# Altium schematic symbol library LIBRERIA DIAZ BAEZ.SCHLIB: 180 symbols (part 1 of 2)
Pins are listed as number, name and electrical type; pins without a type are passive.

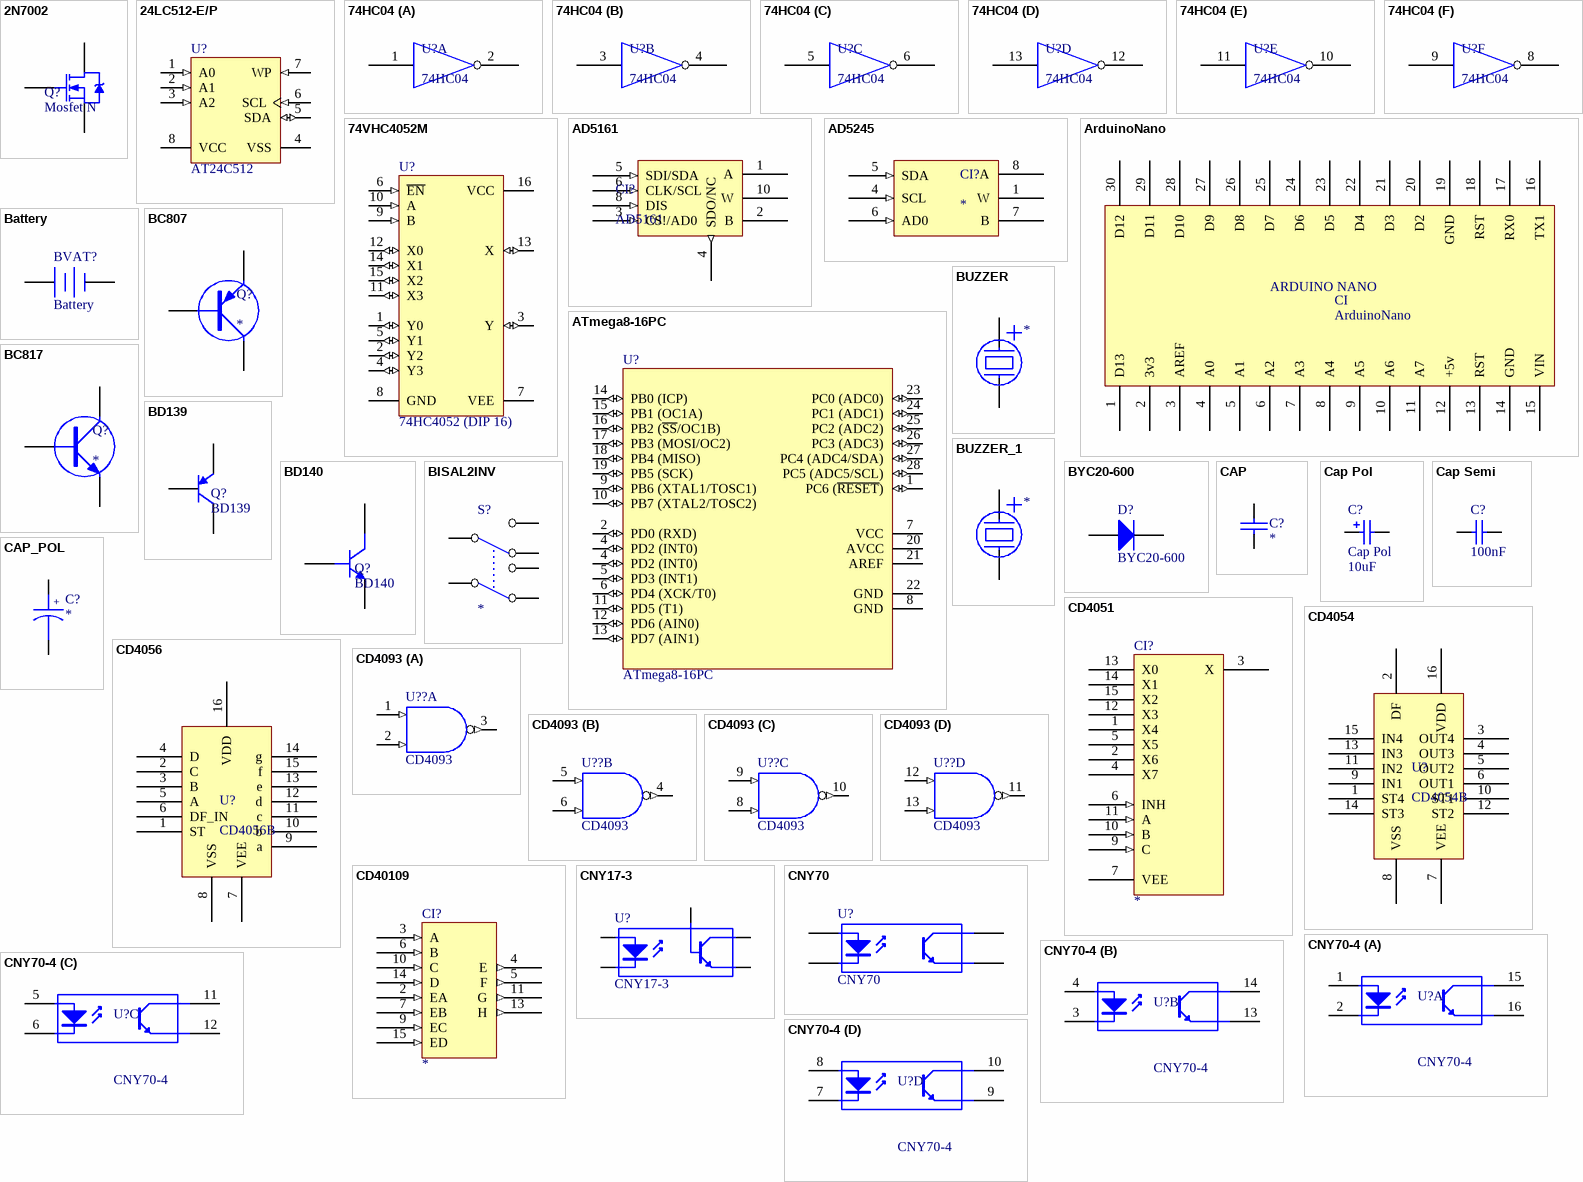
[diagram p0: symbols 2N7002 to CNY70-4]

## 2N7002
designator Q?, comment Mosfet N
PNP Bipolar Transistor; Published: 8-Jun-2000; LatestRevisionDate: 17-Jul-2002; LatestRevisionNote: Re-released for DXP Platform.; PackageReference: SOT-23B; Publisher: Altium Limited; Code_JEDEC: SOT-23
footprint SOT23-2N7002
footprint TO220-AB
footprint TO220
pins: 1 D, 2 G, 3 S

## 24LC512-E/P
designator U?, comment AT24C512
512Kbit, 400kHz, 2.5V, I2C Serial EEPROM, 8-Pin PDIP, Extended Temperature; FirstPublished: 29-Jan-2009; DatasheetVersion: revJ, Jul-2008; PackageVersion: revBB, Aug-2009; PackageReference: PDIP300-P8; Publisher: Altium Limited; PackageDescription: 8-Lead Plastic Dual In-Line (P) - 300 mil Body [PDIP]; Supplier 1: Digi-Key; Supplier Part Number 1: 24LC512-E/P-ND; Supplier 2: Newark; Supplier Part Number 2: 92C7201; Code_JEDEC: MS-001; ComponentLink1Description: Datasheet; ComponentLink1URL: http://ww1.microchip.com/downloads/en/DeviceDoc/21754J.pdf; ComponentLink2Description: Packaging Specification; ComponentLink2URL: http://www.microchip.com/stellent/groups/techpub_sg/documents/packagingspec/en012702.pdf; ComponentLink3Description: Microchip.com Home; ComponentLink3URL: http://www.microchip.com/
footprint DIP 8
pins: 1 A0 (in), 2 A1 (in), 3 A2 (in), 4 VSS (power), 5 SDA (io), 6 SCL (in), 7 WP (in), 8 VCC (power)

## 74HC04
designator U?
footprint DIP14 (Dual in package 14 Pins)
footprint TSSOP14 (TSOP, 14-Leads, Body 5,0x4,4mm (max), Pitch 0,65mm, IPC Low Density)
part A pins: 1, 2, 7 GND (power) hidden to GND, 14 VCC (power) hidden to VCC
part B pins: 3, 4
part C pins: 5, 6
part D pins: 12, 13
part E pins: 10, 11
part F pins: 8, 9

## 74VHC4052M
designator U?, comment 74HC4052 (DIP 16)
Dual 4-Channel Analog Multiplexer; Published: 17-Jul-2002; LatestRevisionDate: 13-Apr-2006; LatestRevisionNote: IPC-7351 Footprint Added.; DatasheetVersion: Apr-1999; PackageVersion: 2000; PackageReference: M16A; Publisher: Altium Limited; PackageDescription: 16-Pin Small Outline Integrated Circuit 1.27 mm Pitch; Code_IPC: SOIC127P600-16; ComponentLink1Description: Manufacturer Link; ComponentLink1URL: http://www.fairchildsemi.com/; ComponentLink2Description: Datasheet; ComponentLink2URL: http://www.fairchildsemi.com/ds/74%2F74VHC4051.pdf
footprint DIP-16
pins: 1 Y0 (io), 2 Y2 (io), 3 Y (io), 4 Y3 (io), 5 Y1 (io), 6 ~{EN} (in), 7 VEE (power), 8 GND (power), 9 B (in), 10 A (in), 11 X3 (io), 12 X0 (io), 13 X (io), 14 X1 (io), 15 X2 (io), 16 VCC (power)

## AD5161
designator CI?
Potenciometro digital I2C
footprint DIP10
pins: 1 A, 2 B, 3 CS!/AD0 (in), 4 SDO/NC (out), 5 SDI/SDA (in), 6 CLK/SCL (in), 7 GND (power) hidden, 8 DIS (in), 9 VDD (power) hidden, 10 W

## AD5245
designator CI?
Pot. Dig. I2C
footprint SOT23-8
pins: 1 W, 2 VDD (power) hidden, 3 GND (power) hidden, 4 SCL (in), 5 SDA (in), 6 AD0 (in), 7 B, 8 A

## ArduinoNano
designator CI
Published: 8-Jun-2000; LatestRevisionDate: 17-Jul-2002; LatestRevisionNote: Re-released for DXP Platform.; PackageReference: SOT-23B; Publisher: Altium Limited; Code_JEDEC: SOT-23
footprint ARDUINO_NANO
pins: 1 D13, 2 3v3, 3 AREF, 4 A0, 5 A1, 6 A2, 7 A3, 8 A4, 9 A5, 10 A6, 11 A7, 12 +5v, 13 RST, 14 GND, 15 VIN, 16 TX1, 17 RX0, 18 RST, 19 GND, 20 D2, 21 D3, 22 D4, 23 D5, 24 D6, 25 D7, 26 D8, 27 D9, 28 D10, 29 D11, 30 D12
text: ARDUINO NANO

## ATmega8-16PC
designator U?
8-Bit AVR Microcontroller with 8K Bytes of In-System Programmable Flash Memory; Published: 17-Sep-2003; LatestRevisionDate: 04-Mar-2005; LatestRevisionNote: Stylized 3D Model Added.; DatasheetVersion: 2486H-AVR-09/02; PackageVersion: revB, Sep-2001; PackageReference: 28P3; Publisher: Altium Limited; PackageDescription: DIP; 28 Leads; Row Spacing 7.62 mm; Pitch 2.54 mm; ComponentLink1Description: Manufacturer Link; ComponentLink1URL: http://www.atmel.com; ComponentLink2Description: Datasheet; ComponentLink2URL: http://www.atmel.com/dyn/resources/prod_documents/doc2486.pdf
footprint DIP-28-300
pins: 1 PC6 (~{RESET}) (io), 2 PD0 (RXD) (io), 4 PD2 (INT0) (io), 4 PD2 (INT0) (io), 5 PD3 (INT1) (io), 6 PD4 (XCK/T0) (io), 7 VCC (power), 8 GND (power), 9 PB6 (XTAL1/TOSC1) (io), 10 PB7 (XTAL2/TOSC2) (io), 11 PD5 (T1) (io), 12 PD6 (AIN0) (io), 13 PD7 (AIN1) (io), 14 PB0 (ICP) (io), 15 PB1 (OC1A) (io), 16 PB2 (~{SS}/OC1B) (io), 17 PB3 (MOSI/OC2) (io), 18 PB4 (MISO) (io), 19 PB5 (SCK) (io), 20 AVCC (power), 21 AREF, 22 GND (power), 23 PC0 (ADC0) (io), 24 PC1 (ADC1) (io), 25 PC2 (ADC2) (io), 26 PC3 (ADC3) (io), 27 PC4 (ADC4/SDA) (io), 28 PC5 (ADC5/SCL) (io)

## Battery
designator BVAT?
Multicell Battery; Published: 24-Mar-1999; LatestRevisionDate: 17-Jul-2002; LatestRevisionNote: Re-released for DXP Platform.; PackageReference: BAT-2; Publisher: Altium Limited
footprint CR2032_H
pins: 1 +, 2 -

## BC807
designator Q?
footprint SOT23 (SOT23, 3-Leads, Body 3,0x2,6mm (max), Pitch 0,95mm, IPC Low Density)
pins: 1 C, 2 B, 3 E

## BC817
designator Q?
footprint SOT23 (SOT23, 3-Leads, Body 3,0x2,6mm (max), Pitch 0,95mm, IPC Low Density)
pins: 1 C, 2 B, 3 E

## BD139
designator Q?
PNP Bipolar Transistor; Published: 8-Jun-2000; LatestRevisionDate: 17-Jul-2002; LatestRevisionNote: Re-released for DXP Platform.; PackageReference: SOT-23B; Publisher: Altium Limited; Code_JEDEC: SOT-23
footprint TO92
footprint TO92 B
pins: 1 E, 2 C, 3 B

## BD140
designator Q?
PNP Bipolar Transistor; Published: 8-Jun-2000; LatestRevisionDate: 17-Jul-2002; LatestRevisionNote: Re-released for DXP Platform.; PackageReference: SOT-23B; Publisher: Altium Limited; Code_JEDEC: SOT-23
footprint TO92
footprint TO92 B
pins: 1 E, 2 C, 3 B

## BISAL2INV
designator S?
footprint BISAL2INV
pins: 1, 2, 3, 4, 5, 6

## BUZZER
designator ?
footprint Buzzer
pins: 1, 2

## BUZZER_1
designator ?
pins: 1, 2

## BYC20-600
designator D?
1 Amp General Purpose Rectifier; Published: 8-Jun-2000; LatestRevisionDate: 17-Jul-2002; LatestRevisionNote: Re-released for DXP Platform.; DatasheetDocument: 1998; PackageDocument: Aug-1999; PackageReference: DO-41; Publisher: Altium Limited; Code_JEDEC: DO-204-AL; ComponentLink1Description: Manufacturer Link; ComponentLink1URL: http://www.fairchildsemi.com/; ComponentLink2Description: Datasheet; ComponentLink2URL: http://www.fairchildsemi.com/ds/1N%2F1N4001.pdf
footprint TO220-AC
pins: 1 K, 2 A

## CAP
designator C?
footprint CAP0.15
footprint CAP0.2
pins: 1, 2

## Cap Pol
designator C?  value 10uF
Polarized Capacitor (Surface Mount); Published: 8-Jun-2000; LatestRevisionDate: 17-Jul-2002; LatestRevisionNote: Re-released for DXP Platform.; PackageReference: C0805; Publisher: Altium Limited
simulation model CAP (Capacitor)
signal-integrity model Cap Pol
footprint Electrolitico 16x25
footprint ELECTROLITICO 8x14
footprint 0805_CAP
footprint ELECTROLITICO 5X10
footprint ELECTROLITICO 4X5.5
footprint TANTALIO C
pins: 1, 2
1 alternate drawing of the same symbol

## Cap Semi
designator C?, comment value 100nF  (hidden comment: Comment)
Capacitor (Semiconductor SIM Model); Published: 8-Jun-2000; LatestRevisionDate: 17-Jul-2002; LatestRevisionNote: Re-released for DXP Platform.; PackageReference: C1206; Publisher: Altium Limited
simulation model CAP (Semiconductor Capacitor)
signal-integrity model Cap Semi
footprint 1206_Cap
footprint 0805_CAP
footprint CERAMICO-0.2 - LENTEJA
footprint CERAMICO-0.2 AZUL
pins: 1, 2

## CAP_POL
designator C?
footprint CAP0.15/0.25
footprint CAP0.2/0.4
footprint CAP0.3/0.6
footprint CAP0.4/0.8
footprint CAP0.4/1.2
footprint CAP0.5/1.0
pins: 1, 2
text: +

## CD4051
designator CI?
footprint DIP16
pins: 1 X4, 2 X6, 3 X, 4 X7, 5 X5, 6 INH (in), 7 VEE, 8 GND (power) hidden to GND, 9 C (in), 10 B (in), 11 A (in), 12 X3, 13 X0, 14 X1, 15 X2, 16 VDD (power) hidden to VDD

## CD4054
designator U?, comment CD4054B
footprint DIP16
pins: 1 ST4, 2 DF, 3 OUT4, 4 OUT3, 5 OUT2, 6 OUT1, 7 VEE, 8 VSS, 9 IN1, 10 ST1, 11 IN2, 12 ST2, 13 IN3, 14 ST3, 15 IN4, 16 VDD

## CD4056
designator U?, comment CD4056B
BCD to 7 SEG. LCD
footprint DIP16
pins: 1 ST, 2 C, 3 B, 4 D, 5 A, 6 DF_IN, 7 VEE, 8 VSS, 9 a, 10 b, 11 c, 12 d, 13 e, 14 g, 15 f, 16 VDD

## CD4093
designator U??
Quadruple Positive-NAND Gate with Schmitt-Trigger Inputs; Published: 8-Jun-2000; LatestRevisionDate: 04-Mar-2005; LatestRevisionNote: Stylized 3D Model Added.; DatasheetVersion: May-1997; PackageVersion: Jun-1999; PackageReference: J014; Publisher: Altium Limited; PackageDescription: DIP; 14 Leads; Row Spacing 7.62 mm; Pitch 2.54 mm; ComponentLink1Description: Manufacturer Link; ComponentLink1URL: http://www.ti.com/; ComponentLink2Description: Datasheet; ComponentLink2URL: http://www-s.ti.com/sc/ds/sn54hc132.pdf; ComponentLink3Description: Packaging Specification; ComponentLink3URL: http://focus.ti.com/lit/ml/mcer002d/mcer002d.pdf
footprint DIP14 (Dual in package 14 Pins)
pins on every part: 7 GND (power) hidden to GND, 14 VCC (power) hidden to VCC
part A pins: 1 A (in), 2 B (in), 3 Y (out)
part B pins: 4 Y (out), 5 A (in), 6 B (in)
part C pins: 8 B (in), 9 A (in), 10 Y (out)
part D pins: 11 Y (out), 12 A (in), 13 B (in)

## CD40109
designator CI?
footprint DIP16
pins: 1 VCC hidden to VCC, 2 EA (in), 3 A (in), 4 E (out), 5 F (out), 6 B (in), 7 EB (in), 8 VSS hidden to VSS, 9 EC (in), 10 C (in), 11 G (out), 13 H (out), 14 D (in), 15 ED (in), 16 VDD hidden to VDD

## CNY17-3
designator U?
4-Pin Phototransistor Optocoupler; Published: 24-Mar-1999; LatestRevisionDate: 04-Mar-2005; LatestRevisionNote: Sch pins 3 & 4 Swapped.; DatasheetDocument: Nov-2003; PackageReference: DIP-4; Publisher: Altium Limited
footprint DIP 6
pins: 1 A "Anode", 2 K "Cathode", 4 E "Emitter", 5 C "Collector", 6 B "Collector"

## CNY70
designator U?
Reflective sensor
footprint CNY70 (Sensor reflectivo CNY-70)
pins: 1 A, 2 K, 3 C, 4 E

## CNY70-4
designator U?
Reflective sensor
footprint DIP-16
footprint DIP-16 + Zocalo
part A pins: 1 A, 2 K, 15 C, 16 E
part B pins: 3 K, 4 A, 13 E, 14 C
part C pins: 5 A, 6 K, 11 C, 12 E
part D pins: 7 K, 8 A, 9 E, 10 C

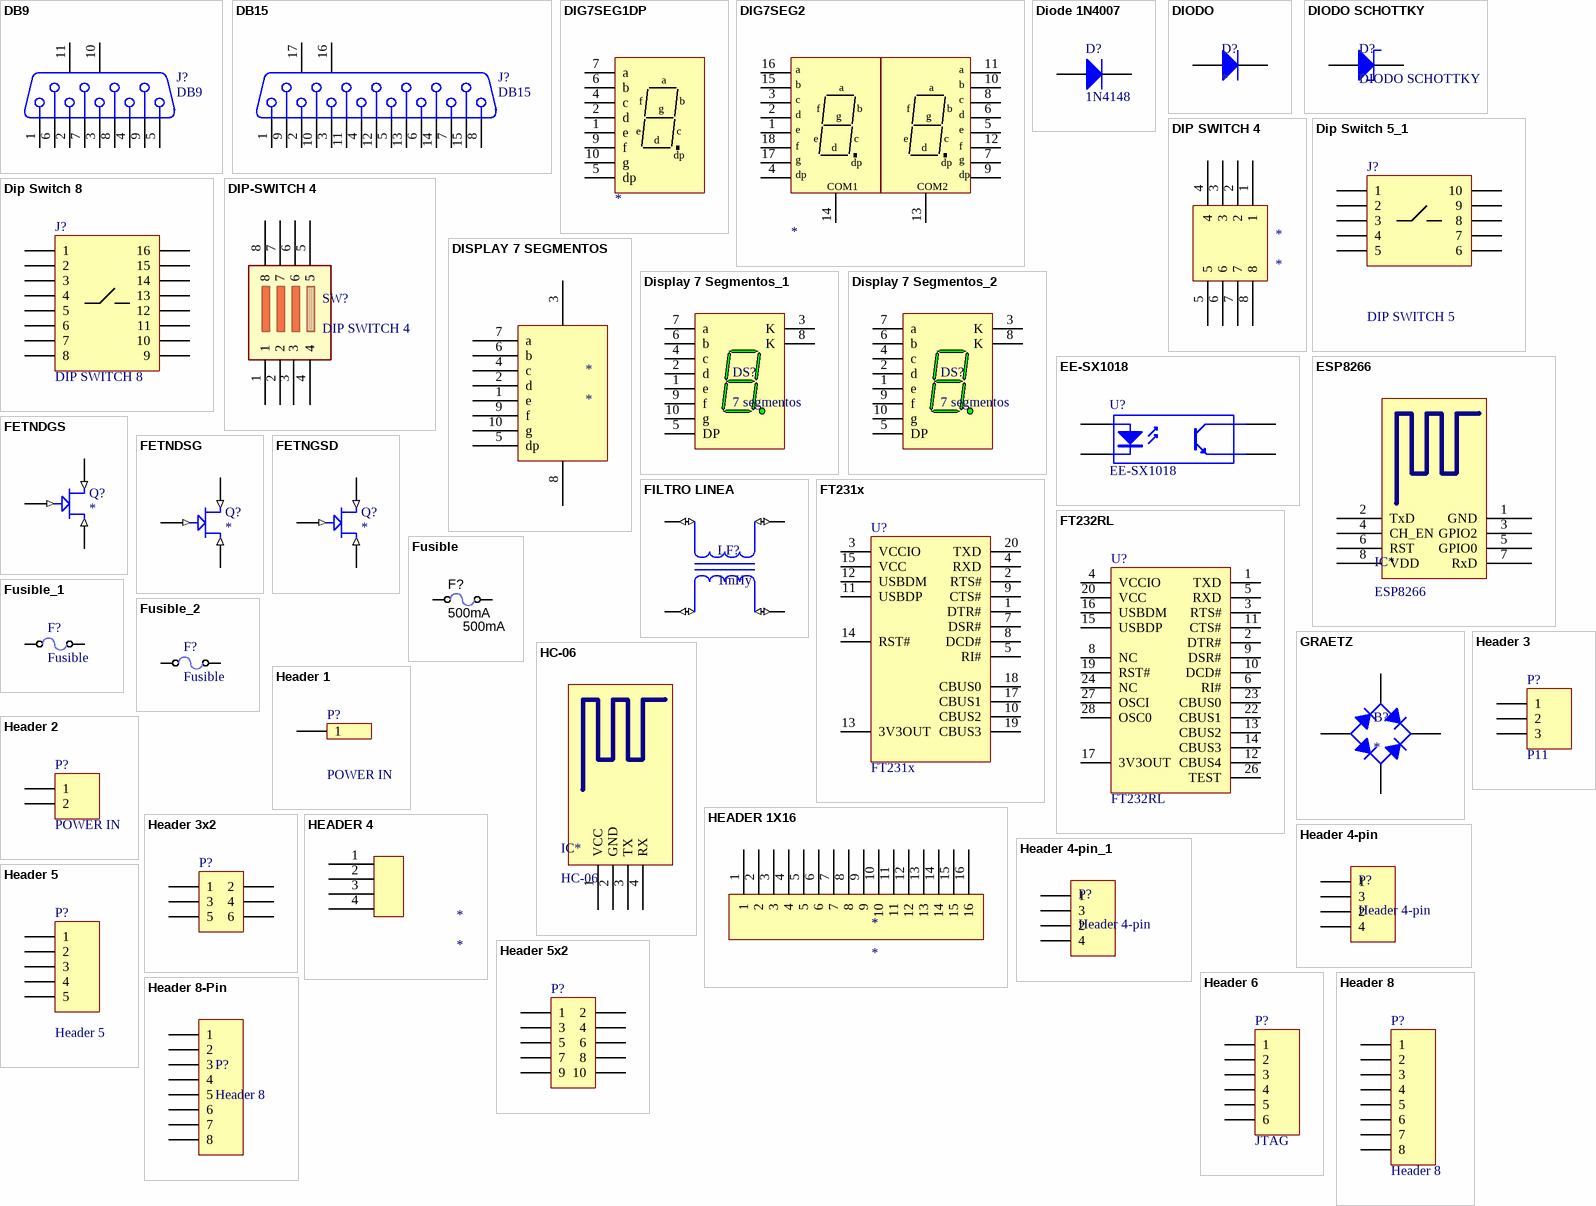
[diagram p1: symbols DB9 to Header 8-Pin]

## DB9
designator J?
DB9 RS232; PackageDocument: O; Positions: 9; Gender: Receptacle; Published: 15-Jun-2001; LatestRevisionDate: 17-Jul-2002; LatestRevisionNote: Re-released for DXP Platform.; DatasheetDocument: 1-Sep-1999; PackageReference: 788750; Publisher: Altium Limited; Orientation: Right Angle
footprint DB9
pins: 1, 2, 3, 4, 5, 6, 7, 8, 9, 10 MH1, 11 MH2

## DB15
designator J?
D Connector 15 Position, Right Angle; PackageDocument: O; Positions: 15; Gender: Receptacle; Published: 15-Jun-2001; LatestRevisionDate: 17-Jul-2002; LatestRevisionNote: Re-released for DXP Platform.; DatasheetDocument: 1-Sep-99; PackageReference: 788757; Publisher: Altium Limited; Orientation: Right Angle
signal-integrity model Connector
footprint DB15
footprint DB15 - 2
pins: 1, 2, 3, 4, 5, 6, 7, 8, 9, 10, 11, 12, 13, 14, 15, 16 MH1, 17 MH2

## DIG7SEG1DP
designator ?
pins: 1 e, 2 d, 3 V hidden to V, 4 c, 5 dp, 6 b, 7 a, 8 V hidden to V, 9 f, 10 g

## DIG7SEG2
designator ?
pins: 1 e, 2 d, 3 c, 4 dp, 5 e, 6 d, 7 g, 8 c, 9 dp, 10 b, 11 a, 12 f, 13 VCC, 14 VCC, 15 b, 16 a, 17 g, 18 f
text: COM1; COM2

## Diode 1N4007
designator D?, comment 1N4148
1 Amp General Purpose Rectifier; Published: 8-Jun-2000; LatestRevisionDate: 17-Jul-2002; LatestRevisionNote: Re-released for DXP Platform.; DatasheetDocument: 1998; PackageDocument: Aug-1999; PackageReference: DO-41; Publisher: Altium Limited; Code_JEDEC: DO-204-AL; ComponentLink1Description: Manufacturer Link; ComponentLink1URL: http://www.fairchildsemi.com/; ComponentLink2Description: Datasheet; ComponentLink2URL: http://www.fairchildsemi.com/ds/1N%2F1N4001.pdf
simulation model 1N4007 (DIODE)
signal-integrity model 1N4007
footprint Diodo D0-41
footprint SMA-DO214AC
footprint Diodo D0-201
footprint SOD-80
footprint SOD-123
pins: 1 A, 2 K

## DIODO
designator D?
pins: 1 A, 2 K

## DIODO SCHOTTKY
designator D?
pins: 1 A, 2 K

## DIP SWITCH 4
designator *
footprint DIP 8
pins: 1, 2, 3, 4, 5, 6, 7, 8

## Dip Switch 5_1
designator J?, comment DIP SWITCH 5
LatestRevisionDate: 17-Jul-2002; LatestRevisionNote: Re-released for DXP Platform.; Publisher: Altium Limited
signal-integrity model Connector
footprint DIP SWITCH 5
pins: 1, 2, 3, 4, 5, 6, 7, 8, 9, 10

## Dip Switch 8
designator J?, comment DIP SWITCH 8
LatestRevisionDate: 17-Jul-2002; LatestRevisionNote: Re-released for DXP Platform.; Publisher: Altium Limited
signal-integrity model Connector
footprint DIP SWITCH 8
footprint DIP SWITCH 8 - ROJO
pins: 1, 2, 3, 4, 5, 6, 7, 8, 9, 10, 11, 12, 13, 14, 15, 16

## DIP-SWITCH 4
designator SW?, comment DIP SWITCH 4
footprint DIP8
pins: 1, 2, 3, 4, 5, 6, 7, 8

## DISPLAY 7 SEGMENTOS
designator *
footprint DISPLAY
pins: 1 e, 2 d, 3, 4 c, 5 dp, 6 b, 7 a, 8 11, 9 f, 10 g

## Display 7 Segmentos_1
designator DS?, comment 7 segmentos
footprint Display 7 Segmentos_Blanco
footprint Display 7 Segmentos_Verde
pins: 1 e "Cathode", 2 d "Cathode", 3 K "Anode", 4 c "Cathode", 5 DP "Cathode", 6 b "Cathode", 7 a "Cathode", 8 K "Anode", 9 f "Cathode", 10 g "Cathode"

## Display 7 Segmentos_2
designator DS?, comment 7 segmentos
footprint Display 7 Segmentos_Blanco
footprint Display 7 Segmentos_Verde
pins: 1 e "Cathode", 2 d "Cathode", 3 K "Anode", 4 c "Cathode", 5 DP "Cathode", 6 b "Cathode", 7 a "Cathode", 8 K "Anode", 9 f "Cathode", 10 g "Cathode"

## EE-SX1018
designator U?
Reflective sensor
footprint EE-SX1018
pins: 1 A, 2 K, 3 C, 4 E

## ESP8266
designator IC*
footprint ESP8266 ESP-01
pins: 1 GND, 2 TxD, 3 GPIO2, 4 CH_EN, 5 GPIO0, 6 RST, 7 RxD, 8 VDD

## FETNDGS
designator Q?
footprint TO92
footprint TO220V
pins: 1 D (in), 2 G (in), 3 S (in)

## FETNDSG
designator Q?
JFET CANAL N
footprint TO92
pins: 1 D (in), 2 S (in), 3 G (in)

## FETNGSD
designator Q?
JFET CANAL N
footprint TO92
pins: 1 G (in), 2 S (in), 3 D (in)

## FILTRO LINEA
designator LF?, comment 1mHy
footprint FILTRO_L1 (Footprint not found)
pins: 1   (io), 2   (io), 3   (io), 4   (io)

## FT231x
designator U?
footprint SSOP 20
pins: 1 DTR#, 2 RTS#, 3 VCCIO, 4 RXD, 5 RI#, 6 GND hidden to GND, 7 DSR#, 8 DCD#, 9 CTS#, 10 CBUS2, 11 USBDP, 12 USBDM, 13 3V3OUT, 14 RST#, 15 VCC, 16 GND hidden to GND, 17 CBUS1, 18 CBUS0, 19 CBUS3, 20 TXD

## FT232RL
designator U?
footprint SSOP 28
pins: 1 TXD, 2 DTR#, 3 RTS#, 4 VCCIO, 5 RXD, 6 RI#, 7 GND hidden to GND, 8 NC, 9 DSR#, 10 DCD#, 11 CTS#, 12 CBUS4, 13 CBUS2, 14 CBUS3, 15 USBDP, 16 USBDM, 17 3V3OUT, 18 GND hidden to GND, 19 RST#, 20 VCC, 21 GND hidden to GND, 22 CBUS1, 23 CBUS0, 24 NC, 25 GND hidden to GND, 26 TEST, 27 OSCI, 28 OSC0

## Fusible
designator F?, comment 500mA
Fusible; Manufacturer 1: AVX Corporation; Manufacturer Part Number 1: F0603E0R50FSTR; Ratings: 500mA; 32VDC; fast acting; Fuse Type: Fast Acting; DC Cold Resistance: 0.25 Ohm; SCDType: source; Package / Case: 0603 (1608 metric); ComponentLink1URL: http://www.avx.com/docs/Catalogs/accug2.pdf; ComponentLink1Description: http://www.avx.com/docs/Catalogs/accug2.pdf; Supplier 1: Digi-Key; Supplier Part Number 1: 478-2860-1-ND; Operating Temperature: -55°C ~ 125°C; Value: 500mA
footprint FUSIBLE 5X20
footprint FUSIBLE GRANDE
footprint PolySwitch 5mm (MFR090)
pins: 1, 2

## Fusible_1
designator F?, comment Fusible
footprint Fusible+zocalo
pins: 1, 2

## Fusible_2
designator F?, comment Fusible
footprint Fusible+zocalo
pins: 1, 2

## GRAETZ
designator B?
footprint PDIODOS
pins: 1 C, 2 K, 3 C, 4 A

## HC-06
designator IC*
pins: 1 VCC, 2 GND, 3 TX, 4 RX

## Header 1
designator P?, comment POWER IN
Header, 2-Pin; LatestRevisionDate: 17-Jul-2002; LatestRevisionNote: Re-released for DXP Platform.; Publisher: Altium Limited
signal-integrity model Connector
footprint PAD 5x7mm 9 Vias
footprint PAD 3mm CON VIAS
footprint PAD 3mm CON VIAS Y REFUERZO
footprint PAD 3,5x8MM 6 Vias
footprint SIP1
footprint SIP1 Horizontal
pins: 1

## HEADER 1X16
designator *
footprint PCBComponent_1
footprint Header 1X16
pins: 1, 2, 3, 4, 5, 6, 7, 8, 9, 10, 11, 12, 13, 14, 15, 16

## Header 2
designator P?, comment POWER IN
Header, 2-Pin; LatestRevisionDate: 17-Jul-2002; LatestRevisionNote: Re-released for DXP Platform.; Publisher: Altium Limited
signal-integrity model Connector
footprint BORNERA 2
footprint HEADER1X2 (Connector; Header; 2 Position)
footprint KLD-0202
footprint BORNERA2VERDE
footprint BORNERA2
pins: 1, 2

## Header 3
designator P?, comment P11
Header, 3-Pin; LatestRevisionDate: 17-Jul-2002; LatestRevisionNote: Re-released for DXP Platform.; Publisher: Altium Limited
signal-integrity model Connector
footprint Header 1X3H
footprint BORNERA 3
footprint Header 1X3 + TRABA
footprint Header 1X3
footprint BORNERA3
pins: 1, 2, 3

## Header 3x2
designator P?
Header, 3-Pin; LatestRevisionDate: 17-Jul-2002; LatestRevisionNote: Re-released for DXP Platform.; Publisher: Altium Limited
signal-integrity model Connector
footprint HEADER3X2 (Connector; Header; 3x2 Position)
pins: 1, 2, 3, 4, 5, 6

## HEADER 4
designator *
footprint HEADER1X4 (Connector; Header; 4 Position)
pins: 1, 2, 3, 4

## Header 4-pin
designator P?
footprint Header 1x4
footprint Header 1x4 Sin 3D
pins: 1, 2, 3, 4

## Header 4-pin_1
designator P?, comment Header 4-pin
footprint Header 1x4
footprint Header 1x4 Sin 3D
pins: 1, 2, 3, 4

## Header 5
designator P?
Header, 5-Pin; LatestRevisionDate: 17-Jul-2002; LatestRevisionNote: Re-released for DXP Platform.; Publisher: Altium Limited
footprint HEADER1X5 (Connector; Header; 5 Position)
pins: 1, 2, 3, 4, 5

## Header 5x2
designator P?
Header, 5-Pin; LatestRevisionDate: 17-Jul-2002; LatestRevisionNote: Re-released for DXP Platform.; Publisher: Altium Limited
signal-integrity model Connector
footprint HEADER5X2 (Connector; Header; 3x2 Position)
footprint IDC 5X2 (Connector; Header; 3x2 Position)
footprint IDC5X2H (Connector; Header; 3x2 Position)
footprint IDC5X2 + TRABA (Connector; Header; 3x2 Position)
pins: 1, 2, 3, 4, 5, 6, 7, 8, 9, 10

## Header 6
designator P?, comment JTAG
Header, 6-Pin; LatestRevisionDate: 17-Jul-2002; LatestRevisionNote: Re-released for DXP Platform.; Publisher: Altium Limited
signal-integrity model Connector
footprint Header 1X6
footprint Header 1X6 - Right Angle
pins: 1, 2, 3, 4, 5, 6

## Header 8
designator P?
Header, 8-Pin; LatestRevisionDate: 17-Jul-2002; LatestRevisionNote: Re-released for DXP Platform.; Publisher: Altium Limited
footprint HDR1X8 (Connector; Header; 8 Position)
signal-integrity model Connector
footprint SIP8
footprint HEADER 8 RA
pins: 1, 2, 3, 4, 5, 6, 7, 8

## Header 8-Pin
designator P?, comment Header 8
footprint HEADER2X4+CONECTOR
footprint HEADER2X4 HORIZONTAL
footprint HEADER2X4 VERTICAL
footprint HEADER1X8
footprint HEADER 2X4 FEMALE
footprint Header1x8 v2.0
footprint Header1x8 Sin 3D
pins: 1, 2, 3, 4, 5, 6, 7, 8

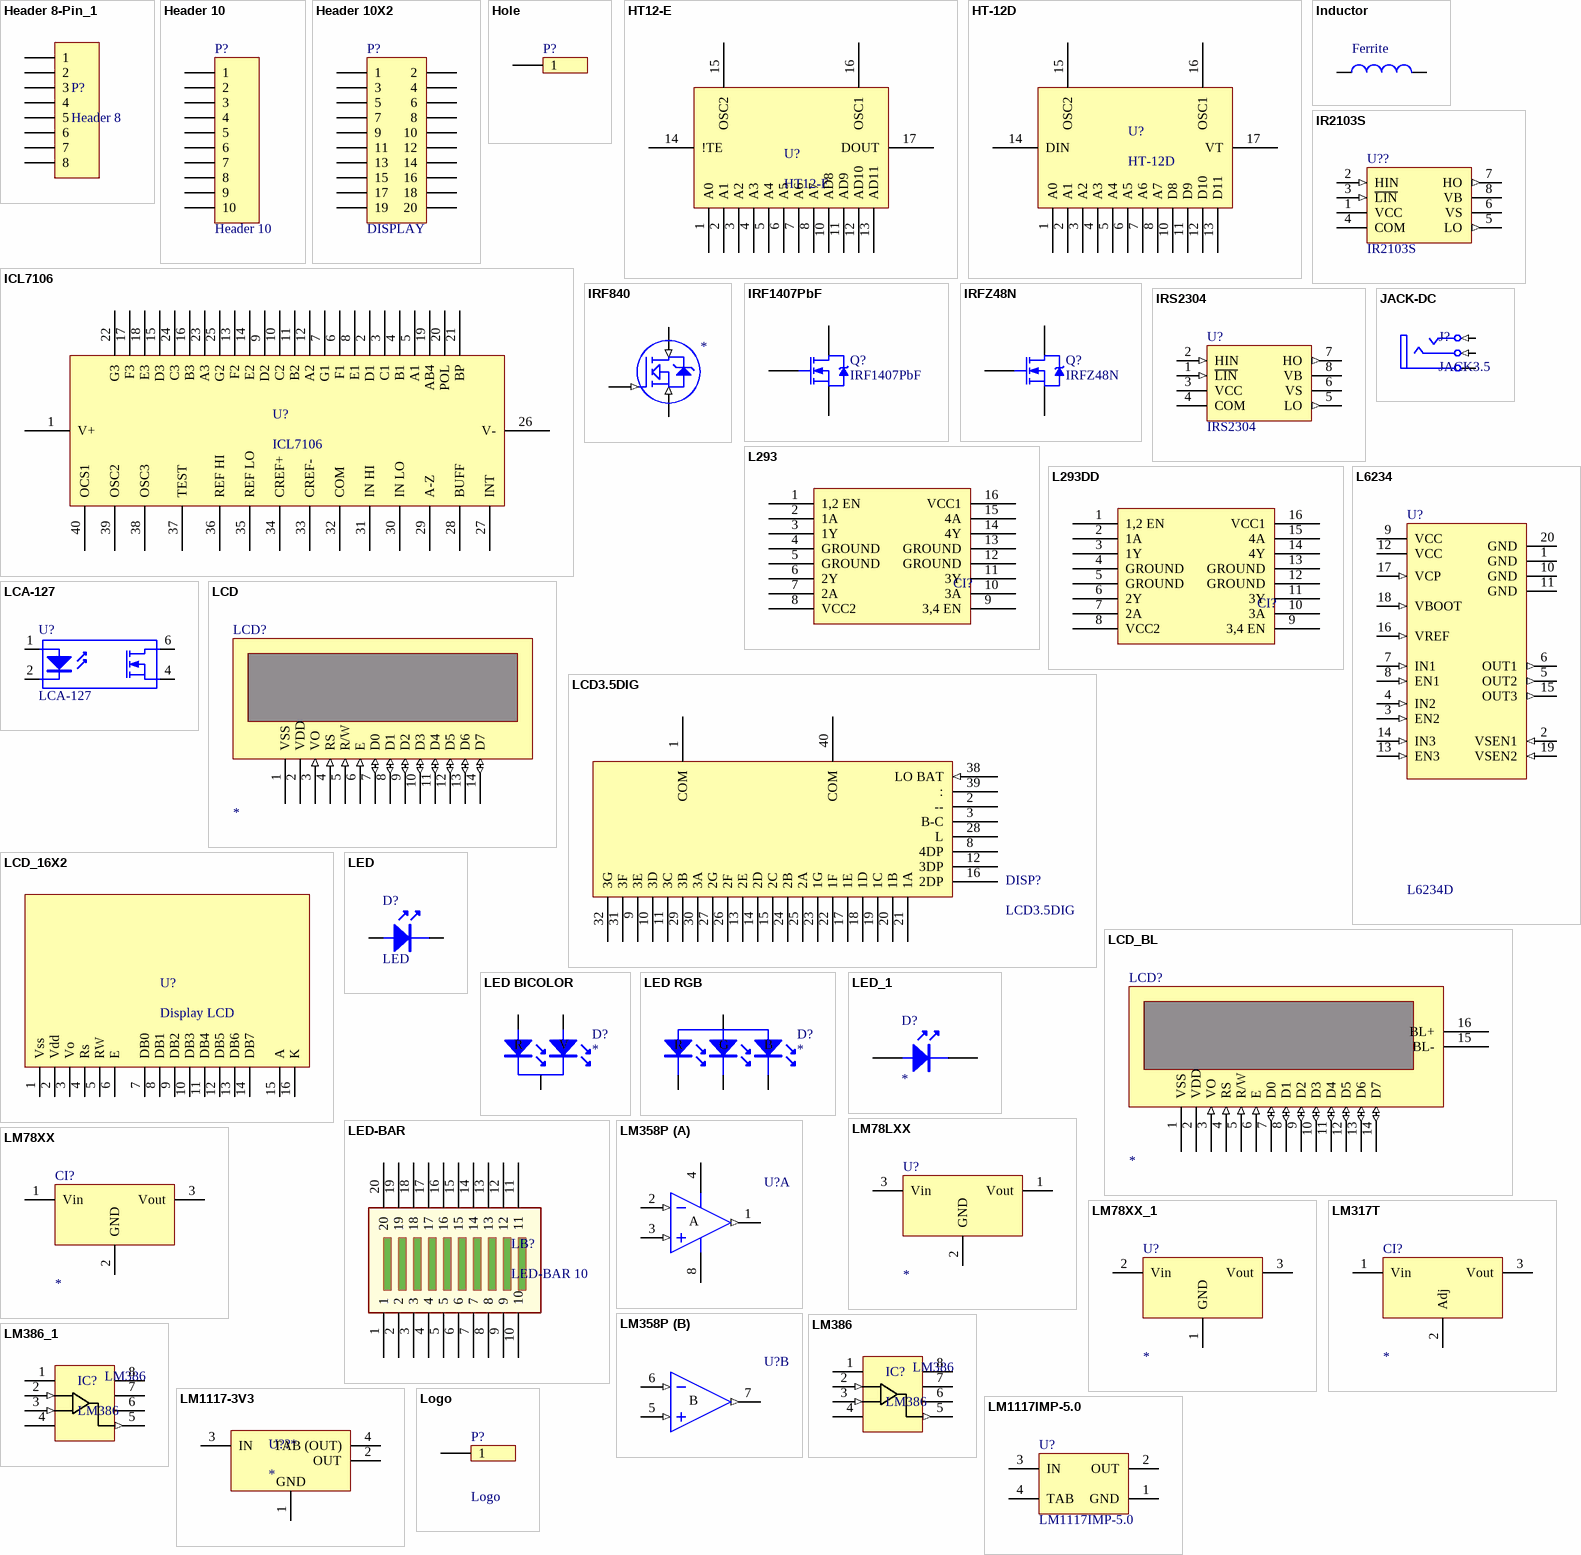
[diagram p2: symbols Header 8-Pin_1 to Logo]

## Header 8-Pin_1
designator P?, comment Header 8
footprint HEADER2X4+CONECTOR
footprint HEADER2X4 HORIZONTAL
footprint HEADER2X4 VERTICAL
footprint HEADER1X8
footprint HEADER 2X4 FEMALE
footprint Header1x8 v2.0
footprint Header1x8 Sin 3D
pins: 1, 2, 3, 4, 5, 6, 7, 8

## Header 10
designator P?
Header, 10-Pin; LatestRevisionDate: 17-Jul-2002; LatestRevisionNote: Re-released for DXP Platform.; Publisher: Altium Limited
footprint HDR1X10 (Connector; Header; 10 Position)
signal-integrity model Connector
footprint HDR1X10 (Connector; Header; 10 Position)
pins: 1, 2, 3, 4, 5, 6, 7, 8, 9, 10

## Header 10X2
designator P?, comment DISPLAY
Header, 10-Pin, Dual row; LatestRevisionDate: 17-Jul-2002; LatestRevisionNote: Re-released for DXP Platform.; Publisher: Altium Limited
signal-integrity model Connector
footprint IDC20
pins: 1, 2, 3, 4, 5, 6, 7, 8, 9, 10, 11, 12, 13, 14, 15, 16, 17, 18, 19, 20

## Hole
designator P?
Header, 2-Pin; LatestRevisionDate: 17-Jul-2002; LatestRevisionNote: Re-released for DXP Platform.; Publisher: Altium Limited
signal-integrity model Connector
footprint Tornillo + Separador M3
footprint Tornillo + Tuerca M3
footprint PAD 3mm CON VIAS
footprint Tornillo + Tuerca M3 + Arandela
footprint SIP1
pins: 1

## HT12-E
designator U?
footprint DIP18
pins: 1 A0, 2 A1, 3 A2, 4 A3, 5 A4, 6 A5, 7 A6, 8 A7, 9 VSS hidden to VSS, 10 AD8, 11 AD9, 12 AD10, 13 AD11, 14 !TE, 15 OSC2, 16 OSC1, 17 DOUT, 18 VDD hidden to VDD

## HT-12D
designator U?
footprint DIP18
pins: 1 A0, 2 A1, 3 A2, 4 A3, 5 A4, 6 A5, 7 A6, 8 A7, 9 VSS hidden to VSS, 10 D8, 11 D9, 12 D10, 13 D11, 14 DIN, 15 OSC2, 16 OSC1, 17 VT, 18 VDD hidden to VDD

## ICL7106
designator U?
footprint DIP40
pins: 1 V+, 2 D1, 3 C1, 4 B1, 5 A1, 6 F1, 7 G1, 8 E1, 9 D2, 10 C2, 11 B2, 12 A2, 13 F2, 14 E2, 15 D3, 16 B3, 17 F3, 18 E3, 19 AB4, 20 POL, 21 BP, 22 G3, 23 A3, 24 C3, 25 G2, 26 V-, 27 INT, 28 BUFF, 29 A-Z, 30 IN LO, 31 IN HI, 32 COM, 33 CREF-, 34 CREF+, 35 REF LO, 36 REF HI, 37 TEST, 38 OSC3, 39 OSC2, 40 OCS1

## Inductor
designator L?, comment Ferrite
Inductor; Code_IEC: 1005; Value: 10mH; Published: 8-Jun-2000; LatestRevisionDate: 17-Jul-2002; LatestRevisionNote: Re-released for DXP Platform.; PackageReference: 0402-A; Publisher: Altium Limited; Code_JEITA: 0402
footprint 0805
footprint INDUCTOR
pins: 1, 2

## IR2103S
designator U??
High and Low Side Driver; Published: 8-Jun-2000; LatestRevisionDate: 13-Apr-2006; LatestRevisionNote: IPC-7351 Footprint Added.; DatasheetVersion: PD600451; PackageVersion: Feb-2001; PackageReference: SO-8; Publisher: Altium Limited; PackageDescription: 8-Pin Plastic Small Outline Integrated Circuit 1.27 mm Pitch; Code_JEDEC: MS-012-AA; Code_IPC: SOIC127P600-8; ComponentLink1Description: Manufacturer Link; ComponentLink1URL: http://www.irf.com/; ComponentLink2Description: Datasheet; ComponentLink2URL: http://www.irf.com/product-info/datasheets/data/ir2103.pdf
footprint 8 Soic
pins: 1 VCC (power), 2 HIN (in), 3 ~{LIN} (in), 4 COM (power), 5 LO (out), 6 VS (power), 7 HO (out), 8 VB (power)

## IRF840
designator ?
pins: 1 D (in), 2 G (in), 3 S (in)

## IRF1407PbF
designator Q?
HEXFET N-Channel Power MOSFET; Published: 8-Jun-2000; LatestRevisionDate: 17-Jul-2002; LatestRevisionNote: Re-released for DXP Platform.; DatasheetVersion: PD-9.1010; PackageReference: D2PAK; Publisher: Altium Limited; PackageDescription: D2-PAK/TO-263-AB; 3 Leads (1 Cropped); Body 15.5 (inc. leads) x 10.5 mm (LxW max); ComponentLink1Description: Manufacturer Link; ComponentLink1URL: http://www.nxp.com/; ComponentLink2Description: Datasheet; ComponentLink2URL: http://www.mouser.com/ds/2/302/PSMN2R8-80BS-102978.pdf; Supplier 1: Digi-Key
footprint TO220
footprint TO220-AB
footprint TO220-AB + DISIPADOR
footprint TO220-A PIN FORWARD (TO220 con el pin central desplazado)
pins: 1 G, 2 D, 3 S

## IRFZ48N
designator Q?
HEXFET N-Channel Power MOSFET; Published: 8-Jun-2000; LatestRevisionDate: 17-Jul-2002; LatestRevisionNote: Re-released for DXP Platform.; DatasheetVersion: PD-9.1010; PackageReference: D2PAK; Publisher: Altium Limited; PackageDescription: D2-PAK/TO-263-AB; 3 Leads (1 Cropped); Body 15.5 (inc. leads) x 10.5 mm (LxW max); ComponentLink1Description: Manufacturer Link; ComponentLink1URL: http://www.nxp.com/; ComponentLink2Description: Datasheet; ComponentLink2URL: http://www.mouser.com/ds/2/302/PSMN2R8-80BS-102978.pdf; Supplier 1: Digi-Key
footprint TO220
footprint TO220-A PIN FORWARD (TO220 con el pin central desplazado)
footprint TO220-AB
footprint TO220-AB + DISIPADOR
pins: 1 G, 2 D, 3 S

## IRS2304
designator U?
High and Low Side Driver; Published: 8-Jun-2000; LatestRevisionDate: 13-Apr-2006; LatestRevisionNote: IPC-7351 Footprint Added.; DatasheetVersion: PD600451; PackageVersion: Feb-2001; PackageReference: SO-8; Publisher: Altium Limited; PackageDescription: 8-Pin Plastic Small Outline Integrated Circuit 1.27 mm Pitch; Code_JEDEC: MS-012-AA; Code_IPC: SOIC127P600-8; ComponentLink1Description: Manufacturer Link; ComponentLink1URL: http://www.irf.com/; ComponentLink2Description: Datasheet; ComponentLink2URL: http://www.irf.com/product-info/datasheets/data/ir2103.pdf
footprint 8 Soic
pins: 1 ~{LIN} (in), 2 HIN (in), 3 VCC (power), 4 COM (power), 5 LO (out), 6 VS (power), 7 HO (out), 8 VB (power)

## JACK-DC
designator J?, comment JACK3.5
footprint JACK3.5ST (Jack 3.5mm stéreo)
pins: 1 L (in) "Tip/Left Channel/(+)", 2 G (power) "Sleeve (Ground)", 3 R (in) "Ring/Right Channel/(-)"

## L293
designator CI?
Driver_Motor; Published: 8-Jun-2000; LatestRevisionDate: 17-Jul-2002; LatestRevisionNote: Re-released for DXP Platform.; PackageReference: SOT-23B; Publisher: Altium Limited; Code_JEDEC: SOT-23
footprint DIP16
pins: 1 1,2 EN, 2 1A, 3 1Y, 4 GROUND, 5 GROUND, 6 2Y, 7 2A, 8 VCC2, 9 3,4 EN, 10 3A, 11 3Y, 12 GROUND, 13 GROUND, 14 4Y, 15 4A, 16 VCC1

## L293DD
designator CI?
Driver_Motor; Published: 8-Jun-2000; LatestRevisionDate: 17-Jul-2002; LatestRevisionNote: Re-released for DXP Platform.; PackageReference: SOT-23B; Publisher: Altium Limited; Code_JEDEC: SOT-23
pins: 1 1,2 EN, 2 1A, 3 1Y, 4 GROUND, 5 GROUND, 6 2Y, 7 2A, 8 VCC2, 9 3,4 EN, 10 3A, 11 3Y, 12 GROUND, 13 GROUND, 14 4Y, 15 4A, 16 VCC1

## L6234
designator U?, comment L6234D
PWM Controlled High Current DMOS Universal Motor Driver; Published: 8-Jun-2000; LatestRevisionDate: 27-Jun-2008; LatestRevisionNote: Slug Added.; DatasheetVersion: Jan-1999; PackageVersion: Mar-2003; PackageReference: PowerSO-36; Publisher: Altium Limited; PackageDescription: 36-Pin Power Small Outline Package 0.65 mm Pitch with Heat Sink; Code_JEDEC: MO-166; ComponentLink1Description: Manufacturer Link; ComponentLink1URL: http://www.st.com/; ComponentLink2Description: Datasheet; ComponentLink2URL: http://www.st.com/stonline/products/literature/ds/4588/l6258.pdf
footprint PowerSO-20 (SOP, 36-Leads, Body 15.9x11mm, Pitch 0.65mm, Slug, IPC Medium Density)
pins: 1 GND (power), 2 VSEN1 (in), 3 EN2 (in), 4 IN2 (in), 5 OUT2 (out), 6 OUT1 (out), 7 IN1 (in), 8 EN1 (in), 9 VCC (power), 10 GND (power), 11 GND (power), 12 VCC (power), 13 EN3 (in), 14 IN3 (in), 15 OUT3 (out), 16 VREF (in), 17 VCP (in), 18 VBOOT (in), 19 VSEN2 (in), 20 GND (power)

## LCA-127
designator U?
6-Pin PhotoMosfet Optocoupler; Published: 24-Mar-1999; LatestRevisionDate: 04-Mar-2005; LatestRevisionNote: Sch pins 3 & 4 Swapped.; DatasheetDocument: Nov-2003; PackageReference: DIP-4; Publisher: Altium Limited
footprint DIP 6
pins: 1 A "Anode", 2 K "Cathode", 3 NC hidden, 4 S "Emitter", 5 NC hidden, 6 D "Collector"

## LCD
designator LCD?
DISPLAY LCD SIN BACKLIGHT
footprint SIP14
footprint POWER14
pins: 1 VSS, 2 VDD, 3 VO (in), 4 RS (in), 5 R/W (in), 6 E (in), 7 D0 (io), 8 D1 (io), 9 D2 (io), 10 D3 (io), 11 D4 (io), 12 D5 (io), 13 D6 (io), 14 D7 (io)

## LCD3.5DIG
designator DISP?
pins: 1 COM, 2 --, 3 B-C, 8 4DP, 9 3E, 10 3D, 11 3C, 12 3DP, 13 2E, 14 2D, 15 2C, 16 2DP, 17 1E, 18 1D, 19 1C, 20 1B, 21 1A, 22 1F, 23 1G, 24 2B, 25 2A, 26 2F, 27 2G, 28 L, 29 3B, 30 3A, 31 3F, 32 3G, 38 LO BAT (in), 39 :, 40 COM

## LCD_16X2
designator U?, comment Display LCD
Display Alfanumerico 16X2
footprint DISPLAY LCD 16x2
pins: 1 Vss, 2 Vdd, 3 Vo, 4 Rs, 5 RW, 6 E, 7 DB0, 8 DB1, 9 DB2, 10 DB3, 11 DB4, 12 DB5, 13 DB6, 14 DB7, 15 A, 16 K

## LCD_BL
designator LCD?
DISPLAY LCD CON BACKLIGHT
footprint SIP16
footprint POWER16
pins: 1 VSS, 2 VDD, 3 VO (in), 4 RS (in), 5 R/W (in), 6 E (in), 7 D0 (io), 8 D1 (io), 9 D2 (io), 10 D3 (io), 11 D4 (io), 12 D5 (io), 13 D6 (io), 14 D7 (io), 15 BL-, 16 BL+

## LED
designator D?
footprint 1206LED
footprint LED3MM-V
footprint 0805 - LED G
footprint 0805 - LED R
pins: A 1, K 2

## LED BICOLOR
designator D?
LED BICOLOR
footprint SIP3
footprint POWER3
pins: 1 AR, 2 K, 3 AV
text: R; V

## LED RGB
designator D?
LED 3 Colores RGB Anodo Comun
footprint SIP4
footprint POWER4
pins: 1 CR, 2 AC, 3 CB, 4 CG
text: R; G; B

## LED-BAR
designator LB?, comment LED-BAR 10
footprint DIP20
pins: 1, 2, 3, 4, 5, 6, 7, 8, 9, 10, 11, 12, 13, 14, 15, 16, 17, 18, 19, 20

## LED_1
designator D?
footprint LED3
footprint LED5
pins: A 1, K 2

## LM78LXX
designator U?
footprint TO92
pins: 1 Vout, 2 GND, 3 Vin

## LM78XX
designator CI?
footprint TO220
footprint TO220-AB
footprint TO220-AB + DISIPADOR
pins: 1 Vin, 2 GND, 3 Vout

## LM78XX_1
designator U?
footprint TO220V
footprint TO220H
pins: 1 GND, 2 Vin, 3 Vout

## LM317T
designator CI?
footprint TO220V
footprint TO220H
pins: 1 Vin, 2 Adj, 3 Vout

## LM358P
designator U?
Dual Operational Amplifier; Published: 16-Jan-2001; LatestRevisionDate: 04-Mar-2005; LatestRevisionNote: Stylized 3D Model Added.; DatasheetVersion: Jul-1998; PackageVersion: Jun-1999; PackageReference: P008; Publisher: Altium Limited; PackageDescription: DIP; 8 Leads; Row Spacing 7.62 mm; Pitch 2.54 mm; Code_JEDEC: MO-001-AN; ComponentLink1Description: Manufacturer Link; ComponentLink1URL: http://www.ti.com/; ComponentLink2Description: Datasheet; ComponentLink2URL: http://www-s.ti.com/sc/ds/lm358.pdf
simulation model LM358 (SUBCKT)
footprint DIP 8
part A pins: 1 OUT (out), 2 IN- (in), 3 IN+ (in), 4 - (power), 8 + (power)
part B pins: 5 IN+ (in), 6 IN- (in), 7 OUT (out)
part A text: A
part B text: B

## LM386
designator IC?
footprint LM386
pins: 1 + (power), 2 IN- (in), 3 IN+ (in), 4 - (power), 5 OUT (out), 6 +, 7 +, 8 +

## LM386_1
designator IC?, comment LM386
footprint LM386
pins: 1 + (power), 2 IN- (in), 3 IN+ (in), 4 - (power), 5 OUT (out), 6 +, 7 +, 8 +

## LM1117-3V3
designator U??*
Low drop voltage regulator
footprint SOT-223 (SOT-223/SC-73; 4 Leads; Body 6.7 x 7.3 mm, inc. leads (LxW max))
pins: 1 GND (power), 2 OUT, 3 IN (power), 4 TAB (OUT) (power)

## LM1117IMP-5.0
designator U?
800mA Low-Dropout Linear Regulator; Manufacturer: National Semiconductor; CompType: LDO IC; PackageTopMarking: XYTT*N06B; Published: 4-Dec-2008; DatasheetVersion: Apr-2006; PackageVersion: revB, Apr-2003; PackageReference: MP04A; Publisher: Altium Limited; PackageDescription: Molded SOT-223, 6.50 x 3.56 x 1.6mm Body, 4 Lead, 2.3mm Pitch; PartNumber: LM1117IMP-5.0; RoHS: O; PinCount: 4; DigiKeyPartNumber: LM1117IMP-5.0CT-ND; Code_JEDEC: TO-261-AA; Code_IPC: SOT223-4; ComponentLink1Description: LM1117 Datasheet; ComponentLink1URL: http://www.national.com/ds/LM/LM1117.pdf; ComponentLink2Description: LM1117 Web Page; ComponentLink2URL: http://www.national.com/pf/LM/LM1117.html; ComponentLink3Description: MP04A Package Page; ComponentLink3URL: http://www.national.com/packaging/folders/mp04a.html
footprint SOT-223
pins: 1 GND (power), 2 OUT (power), 3 IN (power), 4 TAB (power)

## Logo
designator P?
Logotypes; LatestRevisionDate: 17-Jul-2002; LatestRevisionNote: Re-released for DXP Platform.; Publisher: Altium Limited
footprint LOGO ARGENTINA
footprint LOGO ARGENTINA - 3
footprint LOGO EESN5 (Logo de la Escuela)
footprint LOGO EESTN5 CHICO (Logo de la Escuela)
footprint LOGO EESTN5 MEDIANO (Logo de la Escuela)
pins: 1

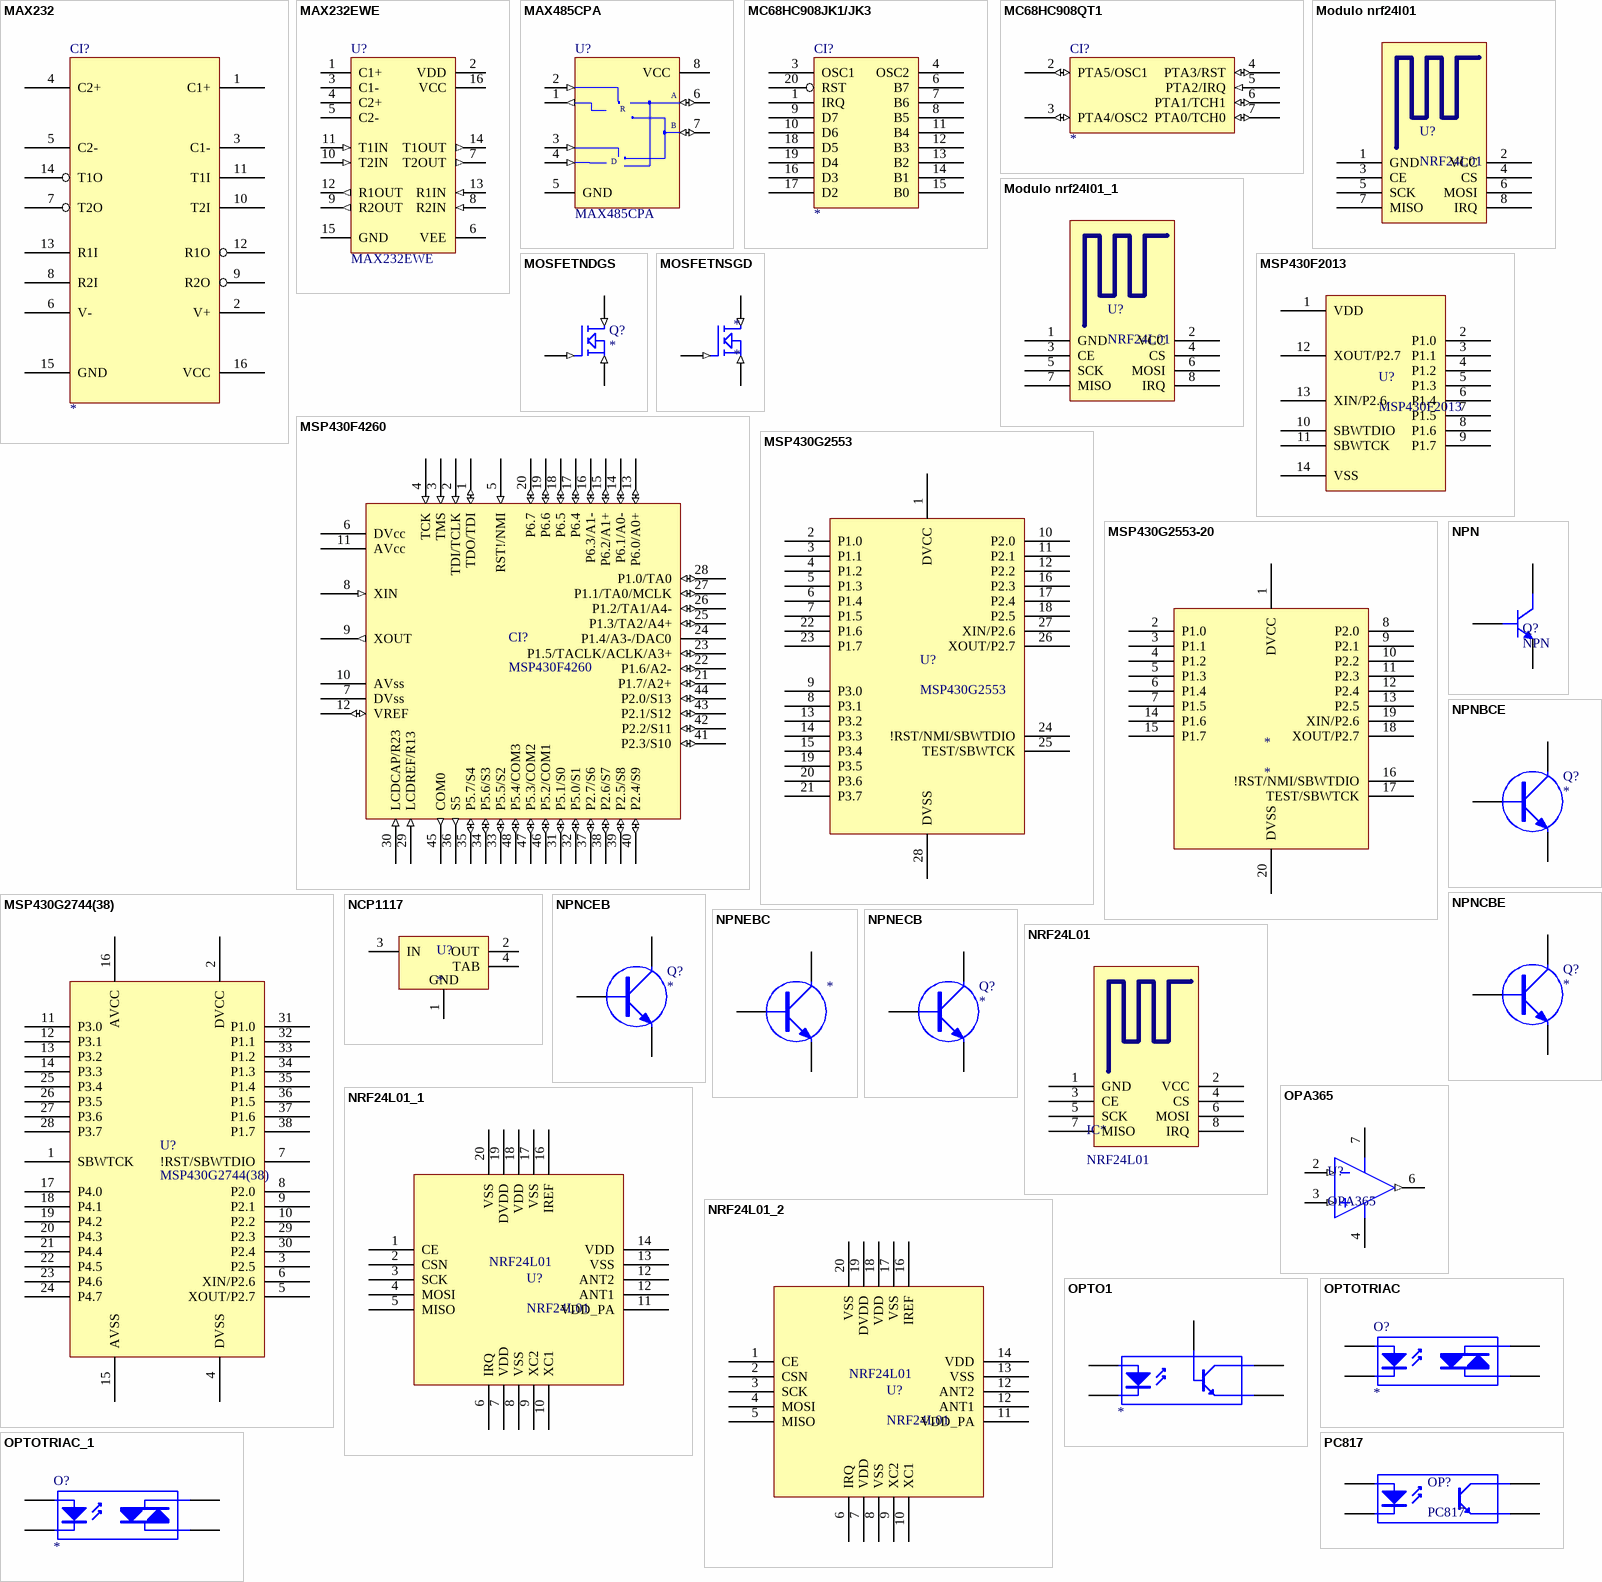
[diagram p3: symbols MAX232 to PC817]

## MAX232
designator CI?
footprint DIP16
pins: 1 C1+, 2 V+, 3 C1-, 4 C2+, 5 C2-, 6 V-, 7 T2O, 8 R2I, 9 R2O, 10 T2I, 11 T1I, 12 R1O, 13 R1I, 14 T1O, 15 GND, 16 VCC

## MAX232EWE
designator U?
+5V Powered RS-232 Driver/Receiver; Published: 16-Jan-2001; LatestRevisionDate: 13-Apr-2006; LatestRevisionNote: IPC-7351 Footprint Added.; DatasheetVersion: Apr-1992; PackageReference: WSO16; Publisher: Altium Limited; PackageDescription: 16-Pin Small Outline Integrated Circuit 1.27 mm Pitch; Code_JEDEC: MS-013-AA; Code_IPC: SOIC127P1030-16; ComponentLink1Description: Manufacturer Link; ComponentLink1URL: http://www.maxim-ic.com/; ComponentLink2Description: Datasheet; ComponentLink2URL: http://pdfserv.maxim-ic.com/en/ds/MAX220-MAX249.pdf
footprint DIP-16 + Zocalo
footprint DIP-16
pins: 1 C1+, 2 VDD (power), 3 C1-, 4 C2+, 5 C2-, 6 VEE (power), 7 T2OUT (out), 8 R2IN (in), 9 R2OUT (out), 10 T2IN (in), 11 T1IN (in), 12 R1OUT (out), 13 R1IN (in), 14 T1OUT (out), 15 GND (power), 16 VCC (power)

## MAX485CPA
designator U?
Low-Power, Slew-Rate-Limited RS-485/RS-422 Transceiver; Published: 16-Jan-2001; LatestRevisionDate: 29-May-2009; LatestRevisionNote: Component Body Added.; DatasheetVersion: Feb-1996; PackageVersion: RevB, 21-0043; PackageReference: PA8; Publisher: Altium Limited; PackageDescription: DIP, 8-Pin, Row Spacing 7.62 mm, Pitch 2.54 mm; Code_JEDEC: MS-001-AB; ComponentLink1Description: Manufacturer Link; ComponentLink1URL: http://www.maxim-ic.com/; ComponentLink2Description: Datasheet; ComponentLink2URL: http://pdfserv.maxim-ic.com/en/ds/MAX1487-MAX491.pdf
footprint DIP 8
pins: 1 RO (out), 2 ~{RE} (in), 3 DE (in), 4 DI (in), 5 GND (power), 6 A (io), 7 B (io), 8 VCC (power)
text: R; D

## MC68HC908JK1/JK3
designator CI?
footprint DIP20
pins: 1 IRQ, 2 GND hidden to GND, 3 OSC1, 4 OSC2, 5 VDD hidden to VDD, 6 B7, 7 B6, 8 B5, 9 D7, 10 D6, 11 B4, 12 B3, 13 B2, 14 B1, 15 B0, 16 D3, 17 D2, 18 D5, 19 D4, 20 RST

## MC68HC908QT1
designator CI?
Microcontrolador
footprint DIP8
pins: 1 VDD (power) hidden to VDD, 2 PTA5/OSC1 (io), 3 PTA4/OSC2 (io), 4 PTA3/RST (io), 5 PTA2/IRQ (in), 6 PTA1/TCH1 (io), 7 PTA0/TCH0 (io), 8 VSS (power) hidden to VSS

## Modulo nrf24l01
designator U?, comment NRF24L01
pins: 1 GND, 2 VCC, 3 CE, 4 CS, 5 SCK, 6 MOSI, 7 MISO, 8 IRQ
1 alternate drawing of the same symbol

## Modulo nrf24l01_1
designator U?, comment NRF24L01
pins: 1 GND, 2 VCC, 3 CE, 4 CS, 5 SCK, 6 MOSI, 7 MISO, 8 IRQ
1 alternate drawing of the same symbol

## MOSFETNDGS
designator Q?
footprint TO92
pins: 1 D (in), 2 G (in), 3 S (in)

## MOSFETNSGD
designator *
pins: 1 S (in), 2 G (in), 3 D (in)

## MSP430F2013
designator U?
pins: 1 VDD (power), 2 P1.0, 3 P1.1, 4 P1.2, 5 P1.3, 6 P1.4, 7 P1.5, 8 P1.6, 9 P1.7, 10 SBWTDIO, 11 SBWTCK, 12 XOUT/P2.7, 13 XIN/P2.6, 14 VSS (power)

## MSP430F4260
designator CI?
Microcontrolador 16 Bits Texas Instruments
footprint SOP63P1030X279-48M (SOP, 48-Leads, Body 16,0x7,6mm (max), Pitch 0,63mm, IPC Low Density)
pins: 1 TDO/TDI (io), 2 TDI/TCLK (in), 3 TMS (in), 4 TCK (in), 5 RST!/NMI (in), 6 DVcc (power), 7 DVss (power), 8 XIN (in), 9 XOUT (out), 10 AVss (power), 11 AVcc (power), 12 VREF (io), 13 P6.0/A0+ (io), 14 P6.1/A0- (io), 15 P6.2/A1+ (io), 16 P6.3/A1- (io), 17 P6.4 (io), 18 P6.5 (io), 19 P6.6 (io), 20 P6.7 (io), 21 P1.7/A2+ (io), 22 P1.6/A2- (io), 23 P1.5/TACLK/ACLK/A3+ (io), 24 P1.4/A3-/DAC0, 25 P1.3/TA2/A4+ (io), 26 P1.2/TA1/A4- (io), 27 P1.1/TA0/MCLK (io), 28 P1.0/TA0 (io), 29 LCDREF/R13 (in), 30 LCDCAP/R23 (in), 31 P5.1/S0 (io), 32 P5.0/S1 (io), 33 P5.5/S2 (io), 34 P5.6/S3 (io), 35 P5.7/S4 (io), 36 S5 (out), 37 P2.7/S6 (io), 38 P2.6/S7 (io), 39 P2.5/S8 (io), 40 P2.4/S9 (io), 41 P2.3/S10 (io), 42 P2.2/S11 (io), 43 P2.1/S12 (io), 44 P2.0/S13 (io), 45 COM0 (out), 46 P5.2/COM1 (io), 47 P5.3/COM2 (io), 48 P5.4/COM3 (io)

## MSP430G2553
designator U?
TI MCU 16 BITS
footprint TSSOP28 (Footprint not found)
pins: 1 DVCC, 2 P1.0, 3 P1.1, 4 P1.2, 5 P1.3, 6 P1.4, 7 P1.5, 8 P3.1, 9 P3.0, 10 P2.0, 11 P2.1, 12 P2.2, 13 P3.2, 14 P3.3, 15 P3.4, 16 P2.3, 17 P2.4, 18 P2.5, 19 P3.5, 20 P3.6, 21 P3.7, 22 P1.6, 23 P1.7, 24 !RST/NMI/SBWTDIO, 25 TEST/SBWTCK, 26 XOUT/P2.7, 27 XIN/P2.6, 28 DVSS

## MSP430G2553-20
designator *
TI MCU 16 BITS 20 PIN
footprint DIP20
pins: 1 DVCC, 2 P1.0, 3 P1.1, 4 P1.2, 5 P1.3, 6 P1.4, 7 P1.5, 8 P2.0, 9 P2.1, 10 P2.2, 11 P2.3, 12 P2.4, 13 P2.5, 14 P1.6, 15 P1.7, 16 !RST/NMI/SBWTDIO, 17 TEST/SBWTCK, 18 XOUT/P2.7, 19 XIN/P2.6, 20 DVSS

## MSP430G2744(38)
designator U?
TI Microcontroller Value Line
footprint TSSOP38 (SOP, 38-Leads, Body 12,6x6,2mm (max), Pitch 0,65mm, IPC Medium Density)
pins: 1 SBWTCK, 2 DVCC, 3 P2.5, 4 DVSS, 5 XOUT/P2.7, 6 XIN/P2.6, 7 !RST/SBWTDIO, 8 P2.0, 9 P2.1, 10 P2.2, 11 P3.0, 12 P3.1, 13 P3.2, 14 P3.3, 15 AVSS, 16 AVCC, 17 P4.0, 18 P4.1, 19 P4.2, 20 P4.3, 21 P4.4, 22 P4.5, 23 P4.6, 24 P4.7, 25 P3.4, 26 P3.5, 27 P3.6, 28 P3.7, 29 P2.3, 30 P2.4, 31 P1.0, 32 P1.1, 33 P1.2, 34 P1.3, 35 P1.4, 36 P1.5, 37 P1.6, 38 P1.7

## NCP1117
designator U?
Low drop voltage regulator
footprint SOT-223 (SOT-223/SC-73; 4 Leads; Body 6.7 x 7.3 mm, inc. leads (LxW max))
pins: 1 GND (power), 2 OUT, 3 IN (power), 4 TAB

## NPN
designator Q?
PNP Bipolar Transistor; Published: 8-Jun-2000; LatestRevisionDate: 17-Jul-2002; LatestRevisionNote: Re-released for DXP Platform.; PackageReference: SOT-23B; Publisher: Altium Limited; Code_JEDEC: SOT-23
footprint TO92
footprint TO92 B
pins: 1 E, 2 B, 3 C

## NPNBCE
designator Q?
footprint TO92
pins: 1 B, 2 C, 3 E

## NPNCBE
designator Q?
footprint TO92
pins: 1 C, 2 B, 3 E

## NPNCEB
designator Q?
footprint TO92
pins: 1 C, 2 E, 3 B

## NPNEBC
designator ?
pins: 1 E, 2 B, 3 C

## NPNECB
designator Q?
footprint TO92
pins: 1 E, 2 C, 3 B

## NRF24L01
designator IC*
pins: 1 GND, 2 VCC, 3 CE, 4 CS, 5 SCK, 6 MOSI, 7 MISO, 8 IRQ

## NRF24L01_1
designator U?, comment NRF24L01
footprint NRF24L01
pins: 1 CE, 2 CSN, 3 SCK, 4 MOSI, 5 MISO, 6 IRQ, 7 VDD, 8 VSS, 9 XC2, 10 XC1, 11 VDD_PA, 12 ANT2, 12 ANT1, 13 VSS, 14 VDD, 16 IREF, 17 VSS, 18 VDD, 19 DVDD, 20 VSS

## NRF24L01_2
designator U?, comment NRF24L01
footprint NRF24L01
pins: 1 CE, 2 CSN, 3 SCK, 4 MOSI, 5 MISO, 6 IRQ, 7 VDD, 8 VSS, 9 XC2, 10 XC1, 11 VDD_PA, 12 ANT2, 12 ANT1, 13 VSS, 14 VDD, 16 IREF, 17 VSS, 18 VDD, 19 DVDD, 20 VSS

## OPA365
designator U?
pins: 2 IN- (in), 3 IN+ (in), 4 V- (power), 6 OUT (out), 7 V+ (power)

## OPTO1
designator ?
footprint DIP6
pins: 1 A, 2 K, 4 E, 5 C, 6 B

## OPTOTRIAC
designator O?
footprint DIP 6
pins: 1 A, 2 K, 4 A/K, 6 A/K

## OPTOTRIAC_1
designator O?
footprint DIP6
pins: 1 A, 2 K, 4 A/K, 6 A/K

## PC817
designator OP?
Optocoupler
footprint DIP4
pins: 1 A, 2 K, 3 E, 4 C

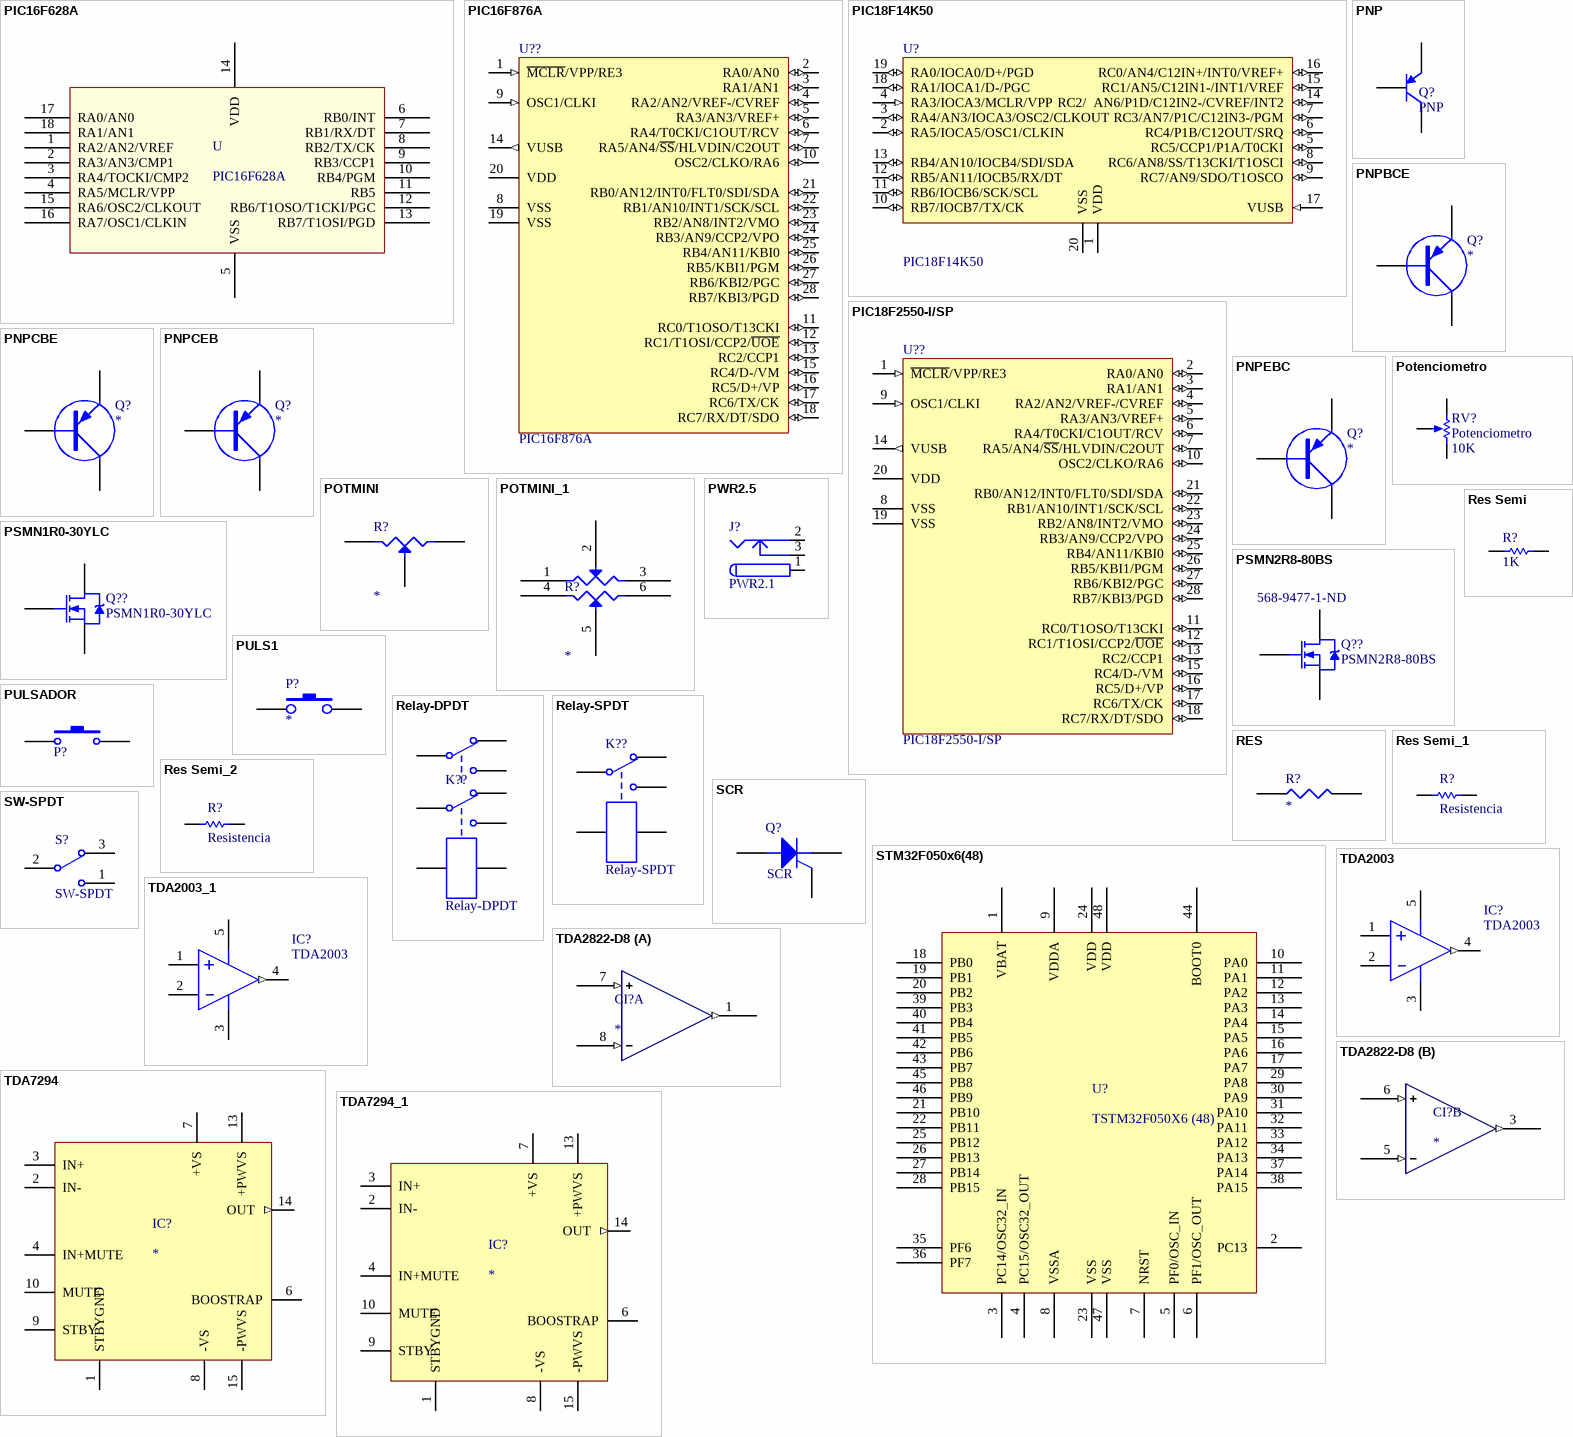
[diagram p4: symbols PIC16F628A to TDA7294_1]

## PIC16F628A
designator U
footprint DIP-18
pins: 1 RA2/AN2/VREF, 2 RA3/AN3/CMP1, 3 RA4/TOCKI/CMP2, 4 RA5/MCLR/VPP, 5 VSS, 6 RB0/INT, 7 RB1/RX/DT, 8 RB2/TX/CK, 9 RB3/CCP1, 10 RB4/PGM, 11 RB5, 12 RB6/T1OSO/T1CKI/PGC, 13 RB7/T1OSI/PGD, 14 VDD, 15 RA6/OSC2/CLKOUT, 16 RA7/OSC1/CLKIN, 17 RA0/AN0, 18 RA1/AN1

## PIC16F876A
designator U??
FirstPublished: 29-Jan-2009; LatestRevisionDate: 02-Dec-2009; LatestRevisionNote: Updated to datasheet revision E, Aug-2008; DatasheetVersion: revE, Aug-2008; PackageVersion: revBB, Aug-2009; PackageReference: SPDIP300-SP28; Publisher: Altium Limited; PackageDescription: 28-Lead Skinny Plastic Dual In-Line (SP) - 300 mil Body [SPDIP]; Supplier 1: Digi-Key; Supplier Part Number 1: PIC18F2550-I/SP-ND; Supplier 2: Farnell; Supplier Part Number 2: 1523822; Supplier 3: Farnell; Supplier Part Number 3: 9321250; Supplier 4: Newark; Supplier Part Number 4: 80K6054; ComponentLink1Description: Datasheet; ComponentLink1URL: http://ww1.microchip.com/downloads/en/DeviceDoc/39632e.pdf; ComponentLink2Description: Packaging Specification; ComponentLink2URL: http://www.microchip.com/stellent/groups/techpub_sg/documents/packagingspec/en012702.pdf; ComponentLink3Description: Microchip.com Home; ComponentLink3URL: http://www.microchip.com/
pins: 1 ~{MCLR}/VPP/RE3 (in), 2 RA0/AN0 (io), 3 RA1/AN1 (io), 4 RA2/AN2/VREF-/CVREF (io), 5 RA3/AN3/VREF+ (io), 6 RA4/T0CKI/C1OUT/RCV (io), 7 RA5/AN4/~{SS}/HLVDIN/C2OUT (io), 8 VSS (power), 9 OSC1/CLKI (in), 10 OSC2/CLKO/RA6 (io), 11 RC0/T1OSO/T13CKI (io), 12 RC1/T1OSI/CCP2/~{UOE} (io), 13 RC2/CCP1 (io), 14 VUSB (out), 15 RC4/D-/VM (io), 16 RC5/D+/VP (io), 17 RC6/TX/CK (io), 18 RC7/RX/DT/SDO (io), 19 VSS (power), 20 VDD (power), 21 RB0/AN12/INT0/FLT0/SDI/SDA (io), 22 RB1/AN10/INT1/SCK/SCL (io), 23 RB2/AN8/INT2/VMO (io), 24 RB3/AN9/CCP2/VPO (io), 25 RB4/AN11/KBI0 (io), 26 RB5/KBI1/PGM (io), 27 RB6/KBI2/PGC (io), 28 RB7/KBI3/PGD (io)

## PIC18F14K50
designator U?
footprint DIP20
pins: 1 VDD (power), 2 RA5/IOCA5/OSC1/CLKIN (io), 3 RA4/AN3/IOCA3/OSC2/CLKOUT (io), 4 RA3/IOCA3/MCLR/VPP (in), 5 RC5/CCP1/P1A/T0CKI (io), 6 RC4/P1B/C12OUT/SRQ (io), 7 RC3/AN7/P1C/C12IN3-/PGM (io), 8 RC6/AN8/SS/T13CKI/T1OSCI (io), 9 RC7/AN9/SDO/T1OSCO (io), 10 RB7/IOCB7/TX/CK (io), 11 RB6/IOCB6/SCK/SCL (io), 12 RB5/AN11/IOCB5/RX/DT (io), 13 RB4/AN10/IOCB4/SDI/SDA (io), 14 RC2/  AN6/P1D/C12IN2-/CVREF/INT2 (io), 15 RC1/AN5/C12IN1-/INT1/VREF (io), 16 RC0/AN4/C12IN+/INT0/VREF+ (io), 17 VUSB (in), 18 RA1/IOCA1/D-/PGC (io), 19 RA0/IOCA0/D+/PGD (io), 20 VSS (power)

## PIC18F2550-I/SP
designator U??
High Performance, Enhanced Flash, USB Microcontroller with nanoWatt Technology, 32K Flash, 28-Pin SPDIP, Industrial Temperature Range; FirstPublished: 29-Jan-2009; LatestRevisionDate: 02-Dec-2009; LatestRevisionNote: Updated to datasheet revision E, Aug-2008; DatasheetVersion: revE, Aug-2008; PackageVersion: revBB, Aug-2009; PackageReference: SPDIP300-SP28; Publisher: Altium Limited; PackageDescription: 28-Lead Skinny Plastic Dual In-Line (SP) - 300 mil Body [SPDIP]; Supplier 1: Digi-Key; Supplier Part Number 1: PIC18F2550-I/SP-ND; Supplier 2: Farnell; Supplier Part Number 2: 1523822; Supplier 3: Farnell; Supplier Part Number 3: 9321250; Supplier 4: Newark; Supplier Part Number 4: 80K6054; ComponentLink1Description: Datasheet; ComponentLink1URL: http://ww1.microchip.com/downloads/en/DeviceDoc/39632e.pdf; ComponentLink2Description: Packaging Specification; ComponentLink2URL: http://www.microchip.com/stellent/groups/techpub_sg/documents/packagingspec/en012702.pdf; ComponentLink3Description: Microchip.com Home; ComponentLink3URL: http://www.microchip.com/
footprint DIP-28-300
pins: 1 ~{MCLR}/VPP/RE3 (in), 2 RA0/AN0 (io), 3 RA1/AN1 (io), 4 RA2/AN2/VREF-/CVREF (io), 5 RA3/AN3/VREF+ (io), 6 RA4/T0CKI/C1OUT/RCV (io), 7 RA5/AN4/~{SS}/HLVDIN/C2OUT (io), 8 VSS (power), 9 OSC1/CLKI (in), 10 OSC2/CLKO/RA6 (io), 11 RC0/T1OSO/T13CKI (io), 12 RC1/T1OSI/CCP2/~{UOE} (io), 13 RC2/CCP1 (io), 14 VUSB (out), 15 RC4/D-/VM (io), 16 RC5/D+/VP (io), 17 RC6/TX/CK (io), 18 RC7/RX/DT/SDO (io), 19 VSS (power), 20 VDD (power), 21 RB0/AN12/INT0/FLT0/SDI/SDA (io), 22 RB1/AN10/INT1/SCK/SCL (io), 23 RB2/AN8/INT2/VMO (io), 24 RB3/AN9/CCP2/VPO (io), 25 RB4/AN11/KBI0 (io), 26 RB5/KBI1/PGM (io), 27 RB6/KBI2/PGC (io), 28 RB7/KBI3/PGD (io)

## PNP
designator Q?
PNP Bipolar Transistor; Published: 8-Jun-2000; LatestRevisionDate: 17-Jul-2002; LatestRevisionNote: Re-released for DXP Platform.; PackageReference: SOT-23B; Publisher: Altium Limited; Code_JEDEC: SOT-23
footprint TO92
footprint TO92 B
pins: 1 E, 2 B, 3 C

## PNPBCE
designator Q?
footprint TO92
pins: 1 B, 2 C, 3 E

## PNPCBE
designator Q?
footprint TO92
pins: 1 C, 2 B, 3 E

## PNPCEB
designator Q?
footprint TO92
pins: 1 C, 2 E, 3 B

## PNPEBC
designator Q?
footprint TO92
pins: 1 E, 2 B, 3 C

## Potenciometro
designator RV?  value 10K
Potentiometer; Sim Note: Enter the Resistance value and the set point into parameter fields.; Set Position: 0.5; Published: 8-Jun-2000; LatestRevisionDate: 17-Jul-2002; LatestRevisionNote: Re-released for DXP Platform.; PackageReference: VR5; Publisher: Altium Limited
simulation model POT (Potentiometer)
footprint Multivuelta Vertical
footprint Multivuelta Lateral
footprint POTMINI
footprint POTMINI - Perilla Azul
footprint POTMINI - Perilla GRIS
footprint POTMINI - Perilla Negra Amarilla
footprint POTMINI - Perilla Negra Roja
footprint PRESET VERTICAL
footprint PRESET HORIZONTAL
pins: 1 TOP, 2 BOT, 3 TAP
1 alternate drawing of the same symbol

## POTMINI
designator R?
footprint POTMINI
footprint PRESET1
footprint PMULTIV-V (Preset Multivueltas vertical)
pins: 1, 2, 3

## POTMINI_1
designator R?
footprint POTMINI - duplicate1
pins: 1, 2, 3, 4, 5, 6

## PSMN1R0-30YLC
designator Q??
HEXFET N-Channel Power MOSFET; Published: 8-Jun-2000; LatestRevisionDate: 17-Jul-2002; LatestRevisionNote: Re-released for DXP Platform.; DatasheetVersion: PD-9.1010; PackageReference: D2PAK; Publisher: Altium Limited; PackageDescription: D2-PAK/TO-263-AB; 3 Leads (1 Cropped); Body 15.5 (inc. leads) x 10.5 mm (LxW max); ComponentLink1Description: Manufacturer Link; ComponentLink1URL: http://www.nxp.com/; ComponentLink2Description: Datasheet; ComponentLink2URL: http://www.mouser.com/ds/2/302/PSMN2R8-80BS-102978.pdf; Supplier 1: Digi-Key
footprint LFPAK
pins: 1 D, 2 S, 3 G

## PSMN2R8-80BS
designator Q??  Supplier Part Number 1: 568-9477-1-ND
HEXFET N-Channel Power MOSFET; Published: 8-Jun-2000; LatestRevisionDate: 17-Jul-2002; LatestRevisionNote: Re-released for DXP Platform.; DatasheetVersion: PD-9.1010; PackageReference: D2PAK; Publisher: Altium Limited; PackageDescription: D2-PAK/TO-263-AB; 3 Leads (1 Cropped); Body 15.5 (inc. leads) x 10.5 mm (LxW max); ComponentLink1Description: Manufacturer Link; ComponentLink1URL: http://www.nxp.com/; ComponentLink2Description: Datasheet; ComponentLink2URL: http://www.mouser.com/ds/2/302/PSMN2R8-80BS-102978.pdf; Supplier 1: Digi-Key
footprint D2PAK (D2-PAK/TO-263-AB; 3 Leads (1 Cropped); Body 15.5 (inc. leads) x 10.5 mm (LxW max))
pins: 1 D, 2 S, 3 G

## PULS1
designator P?
footprint PULSADOR1
pins: 1, 2

## PULSADOR
designator P?  (value not drawn)
Switch; Published: 24-Mar-1999; LatestRevisionDate: 17-Jul-2002; LatestRevisionNote: Re-released for DXP Platform.; PackageReference: SPST-2; Publisher: Altium Limited
footprint PULSADOR SMD 4
footprint PULSADOR 2
footprint PULSADOR4_ALTO
footprint PULSADOR4_BAJO
pins: 1, 2

## PWR2.5
designator J?, comment PWR2.1
Low Voltage Power Supply Connector; Published: 17-Dec-2003; DatasheetDocument: 09-May-2002; Publisher: Altium Limited; ComponentLink1Description: Manufacturer Link; ComponentLink1URL: http://domino.kycon.com/internet/Products.html
footprint KLD-0202
pins: 1 (power), 2 (power), 3 (power)

## Relay-DPDT
designator K??
Single-Pole Dual-Throw Relay; Published: 24-Mar-1999; LatestRevisionDate: 17-Jul-2002; LatestRevisionNote: Re-released for DXP Platform.; PackageReference: MODULE5B; Publisher: Altium Limited
simulation model SPDTRELAY (Spice Subcircuit)
footprint OMRON G5V2
pins: 1, 2, 3, 4, 5, 6, 7, 8

## Relay-SPDT
designator K??
Single-Pole Dual-Throw Relay; Published: 24-Mar-1999; LatestRevisionDate: 17-Jul-2002; LatestRevisionNote: Re-released for DXP Platform.; PackageReference: MODULE5B; Publisher: Altium Limited
simulation model SPDTRELAY (Spice Subcircuit)
footprint RELE1
pins: 1, 2, 3, 4, 5

## RES
designator R?
footprint RES0.2
footprint RES0.3
footprint RES0.4
footprint RES0.5
pins: 1, 2

## Res Semi
designator R?, comment value 1K  (hidden comment: Comment)
Semiconductor Resistor; Published: 8-Jun-2000; LatestRevisionDate: 17-Jul-2002; LatestRevisionNote: Re-released for DXP Platform.; PackageReference: AXIAL-0.5; Publisher: Altium Limited
footprint 1206
footprint 0805
footprint Axial 0.3 (1/8W)
footprint Axial 0.5 (1/2W)
footprint Axial 0.1 (1/4W)
footprint Axial 0.2 (1/4W)
footprint Axial 0.4 (1/4W)
footprint PUENTE 1206
pins: 1, 2

## Res Semi_1
designator R?, comment Resistencia
footprint RES 5W Horizontal
footprint RES 5W Vertical
pins: 1, 2

## Res Semi_2
designator R?, comment Resistencia
footprint RES 5W Horizontal
footprint RES 5W Vertical
pins: 1, 2

## SCR
designator Q?
Silicon Controlled Rectifier; Published: 8-Jun-2000; LatestRevisionDate: 17-Jul-2002; LatestRevisionNote: Re-released for DXP Platform.; PackageReference: TO-220-AB; Publisher: Altium Limited; Code_JEDEC: TO-220-AB
footprint TO-220-AB (TO, Thru-Hole, Vertical, Heatsink Mounted; 3 In-Line Leads; Pitch 2.54 mm)
simulation model SCR (Spice Subcircuit)
footprint TO-220
pins: 1 A, 2 G, 3 K

## STM32F050x6(48)
designator U?, comment TSTM32F050X6 (48)
CORTEX MO MICROCONTROLLER
footprint LQFP48 (48-Leads, Body 9,2x9,2mm (max), Pitch 0,50mm, IPC Medium Density)
pins: 1 VBAT, 2 PC13, 3 PC14/OSC32_IN, 4 PC15/OSC32_OUT, 5 PF0/OSC_IN, 6 PF1/OSC_OUT, 7 NRST, 8 VSSA, 9 VDDA, 10 PA0, 11 PA1, 12 PA2, 13 PA3, 14 PA4, 15 PA5, 16 PA6, 17 PA7, 18 PB0, 19 PB1, 20 PB2, 21 PB10, 22 PB11, 23 VSS, 24 VDD, 25 PB12, 26 PB13, 27 PB14, 28 PB15, 29 PA8, 30 PA9, 31 PA10, 32 PA11, 33 PA12, 34 PA13, 35 PF6, 36 PF7, 37 PA14, 38 PA15, 39 PB3, 40 PB4, 41 PB5, 42 PB6, 43 PB7, 44 BOOT0, 45 PB8, 46 PB9, 47 VSS, 48 VDD

## SW-SPDT
designator S?
SPDT Subminiature Toggle Switch, Right Angle Mounting, Vertical Actuation; Published: 24-Mar-1999; LatestRevisionDate: 17-Dec-2003; LatestRevisionNote: Schematic revised, PCB Footprint replaced.; DatasheetDocument: 05-Dec-2000; PackageReference: TL36WW15050; Publisher: Altium Limited; ComponentLink1Description: Manufacturer Link; ComponentLink1URL: http://www.apem.com
footprint Switch SPST V (Llave ON/OFF)
footprint Switch SPST H (Llave ON/OFF)
footprint Switch SPST H PUSH (Llave ON/OFF)
pins: 1, 2, 3

## TDA2003
designator IC?
footprint TO220 - 5 patas Horizontal
footprint TO220 - 5 patas Vertical
pins: 1 IN- (oc), 2 IN+ (oc), 3 GND (power), 4 OUT (out), 5 V+ (power)
2 alternate drawings of the same symbol

## TDA2003_1
designator IC?, comment TDA2003
footprint TO220 - 5 patas Horizontal
footprint TO220 - 5 patas Vertical
pins: 1 IN- (oc), 2 IN+ (oc), 3 GND (power), 4 OUT (out), 5 V+ (power)
2 alternate drawings of the same symbol

## TDA2822-D8
designator CI?
footprint DIP8
part A pins: 1 (out), 2 VCC hidden, 4 GND hidden, 7 + (in), 8 - (in)
part B pins: 3 (out), 5 - (in), 6 + (in)

## TDA7294
designator IC?
footprint TDA7294 (15 pines)
pins: 1 STBYGND, 2 IN- (power), 3 IN+, 4 IN+MUTE, 6 BOOSTRAP (power), 7 +VS (oc), 8 -VS (oc), 9 STBY (oc), 10 MUTE (oc), 13 +PWVS (oc), 14 OUT (out), 15 -PWVS (power)

## TDA7294_1
designator IC?
footprint TDA7294 (15 pines)
pins: 1 STBYGND, 2 IN- (power), 3 IN+, 4 IN+MUTE, 6 BOOSTRAP (power), 7 +VS (oc), 8 -VS (oc), 9 STBY (oc), 10 MUTE (oc), 13 +PWVS (oc), 14 OUT (out), 15 -PWVS (power)

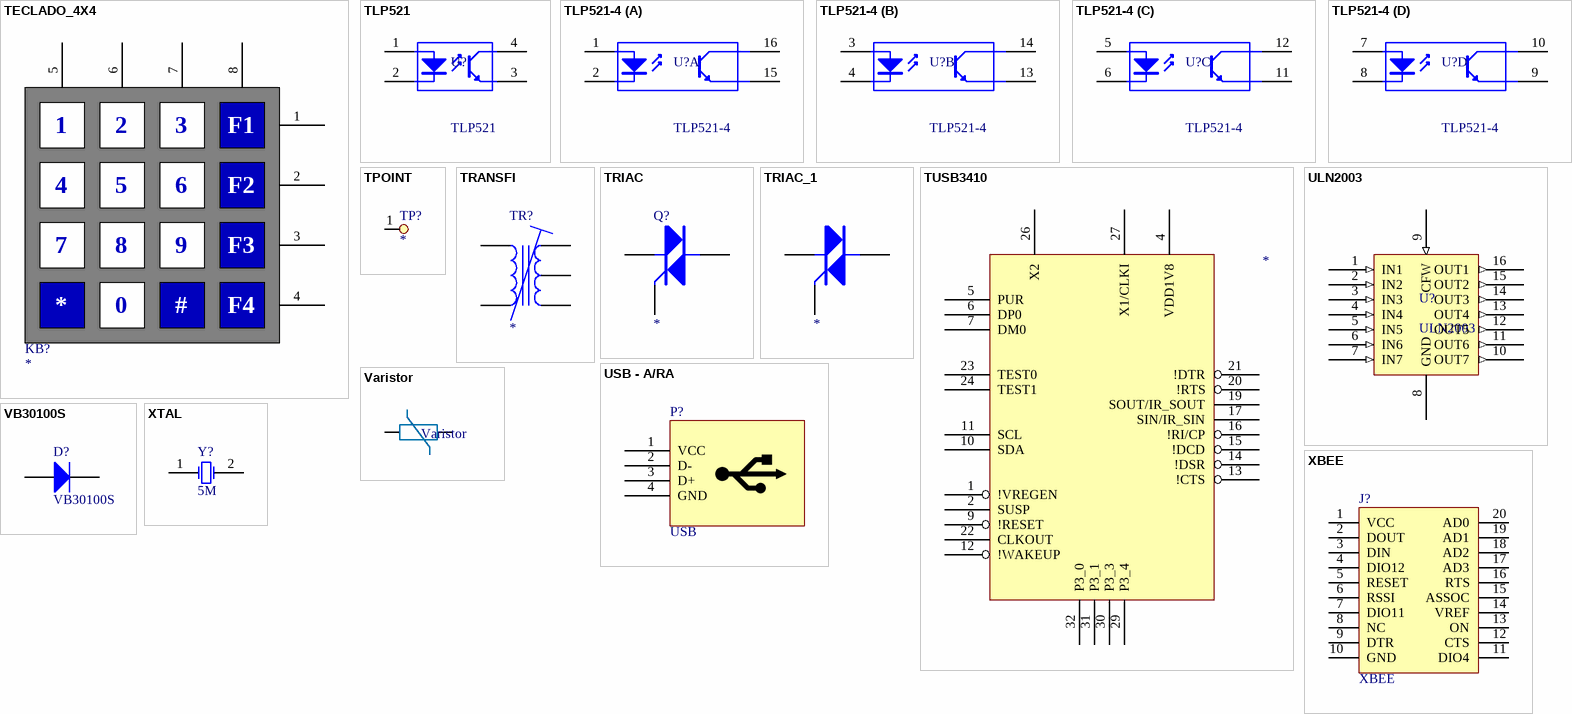
[diagram p5: symbols TECLADO_4X4 to XTAL]

## TECLADO_4X4
designator KB?
Teclado 4 x 4
footprint SIP8
pins: 1 A, 2 B, 3 C, 4 D, 5 1, 6 2, 7 3, 8 4
text: F1; F2; 9; F3; 0; #; F4

## TLP521
designator U?
Reflective sensor
footprint DIP 4
pins: 1 A, 2 K, 3 E, 4 C

## TLP521-4
designator U?
Reflective sensor
footprint DIP-16
footprint DIP-16 + Zocalo
part A pins: 1 A, 2 K, 15 E, 16 C
part B pins: 3 A, 4 K, 13 E, 14 C
part C pins: 5 A, 6 K, 11 E, 12 C
part D pins: 7 A, 8 K, 9 E, 10 C

## TPOINT
designator TP?
TEST POINT
footprint SIP1
pins: 1

## TRANSFI
designator TR?
TRANSFORMADOR DE FI
footprint TFI1
pins: 1, 2, 3, 4, 5, 6 GND hidden to GND, 7 GND hidden to GND

## TRIAC
designator Q?
footprint TO220
footprint TO220-AB
footprint TO220-AB + DISIPADOR
pins: 1 A2, 2 A1, 3 G

## TRIAC_1
designator ?
pins: 1 A2, 2 A1, 3 G